# Altium integrated library Xilinx Aerospace and Defense.IntLib: 197 symbols (part 27 of 53)
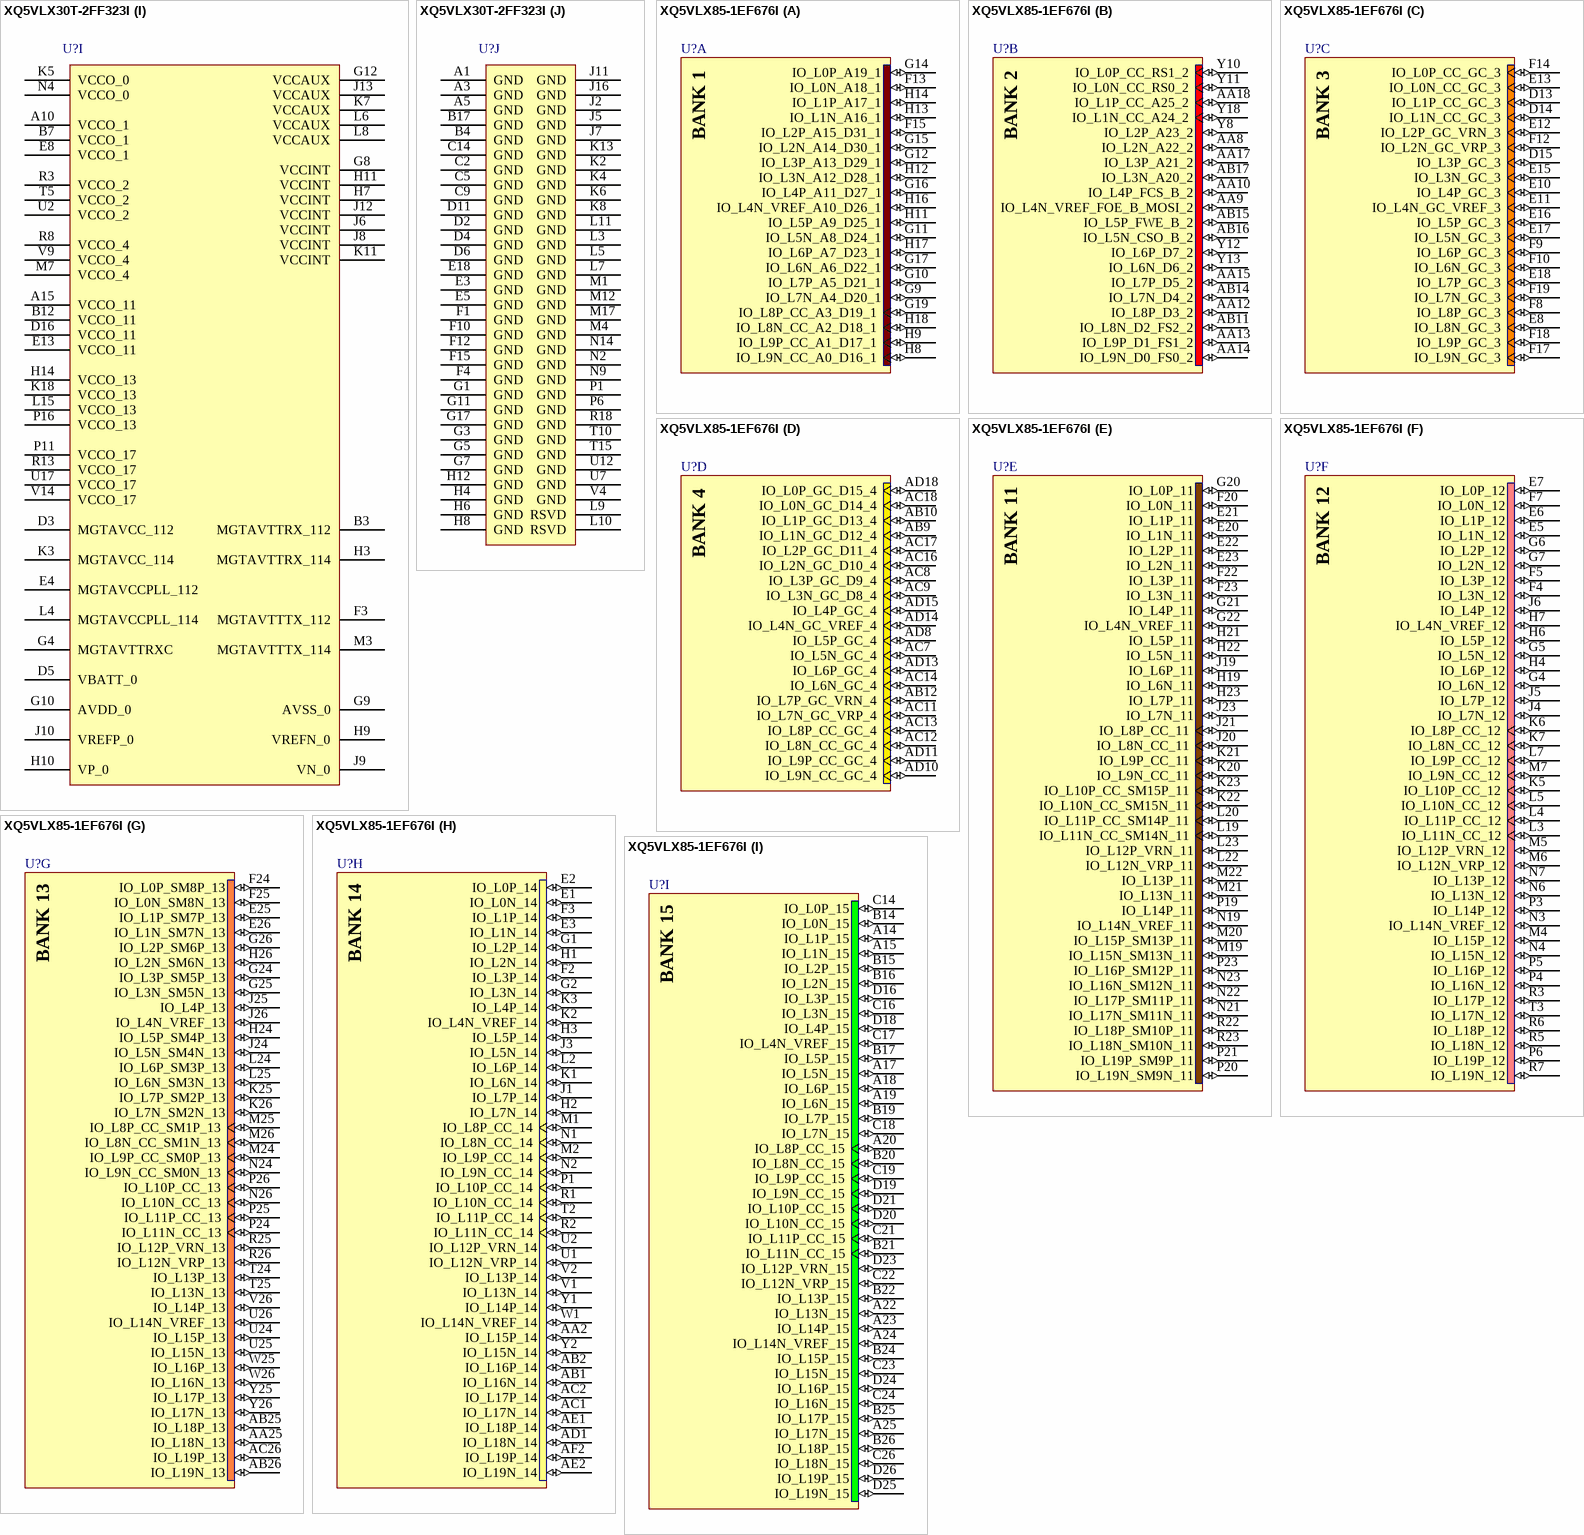
[diagram p339: symbols XQ5VLX30T-2FF323I to XQ5VLX85-1EF676I]

## XQ5VLX30T-2FF323I
designator U?
Virtex-5Q LXT Platform FPGA, 172 User I/Os, 323-Ball FFBGA, Speed Grade 2, Industrial Grade; DatasheetVersion: ver1.1, Dec-2009; PackageVersion: ver1.1, Mar-2008; PackageReference: FF323; PackageDescription: 324-Ball Flip Chip Ball Grid Array (FF323); Code_JEDEC: MS-034-AAG-1; Code_IPC: BGA100P18X18-324; ComponentLink1Description: Manufacturer URL; ComponentLink1URL: http://www.xilinx.com/; ComponentLink2Description: Virtex-5Q Datasheet; ComponentLink2URL: http://www.xilinx.com/support/documentation/data_sheets/ds174.pdf; ComponentLink3Description: Pinout; ComponentLink3URL: http://direct.xilinx.com/bvdocs/userguides/ug195.pdf; ComponentLink4Description: FF323 Package Drawing; ComponentLink4URL: http://www.xilinx.com/support/documentation/package_specs/ff323.pdf; ComponentLink5Description: Virtex-5Q Documents; ComponentLink5URL: http://www.xilinx.com/support/documentation/virtex-5q.htm
footprint FF323 (BGA, 324-Leads, Body 19x19mm, Pitch 1mm)
part A pins: A6 IO_L0N_A18_1 (io), A7 IO_L0P_A19_1 (io), A8 IO_L6P_A7_D23_1 (io), A9 IO_L6N_A6_D22_1 (io), B6 IO_L5P_A9_D25_1 (io), B8 IO_L4N_VREF_A10_D26_1 (io), B9 IO_L4P_A11_D27_1 (io), B10 IO_L8P_CC_A3_D19_1 (io), C6 IO_L5N_A8_D24_1 (io), C7 IO_L3N_A12_D28_1 (io), C8 IO_L3P_A13_D29_1 (io), C10 IO_L8N_CC_A2_D18_1 (io), D7 IO_L7P_A5_D21_1 (io), D8 IO_L1N_A16_1 (io), D9 IO_L2N_A14_D30_1 (io), D10 IO_L2P_A15_D31_1 (io), E7 IO_L7N_A4_D20_1 (io), E9 IO_L1P_A17_1 (io), F7 IO_L9N_CC_A0_D16_1 (io), F8 IO_L9P_CC_A1_D17_1 (io)
part B pins: P2 IO_L2P_A23_2 (io), P3 IO_L2N_A22_2 (io), P4 IO_L6P_D7_2 (io), P5 IO_L8P_D3_2 (io), R1 IO_L0P_CC_RS1_2 (io), R2 IO_L4P_FCS_B_2 (io), R4 IO_L6N_D6_2 (io), R5 IO_L8N_D2_FS2_2 (io), T1 IO_L0N_CC_RS0_2 (io), T2 IO_L4N_VREF_FOE_B_MOSI_2 (io), T3 IO_L9N_D0_FS0_2 (io), T4 IO_L9P_D1_FS1_2 (io), U1 IO_L1N_CC_A24_2 (io), U3 IO_L5N_CSO_B_2 (io), U4 IO_L5P_FWE_B_2 (io), U5 IO_L7P_D5_2 (io), V1 IO_L1P_CC_A25_2 (io), V2 IO_L3P_A21_2 (io), V3 IO_L3N_A20_2 (io), V5 IO_L7N_D4_2 (io)
part C pins: M8 IO_L7N_GC_VRP_4 (io), N6 IO_L1N_GC_D12_4 (io), N7 IO_L1P_GC_D13_4 (io), N8 IO_L7P_GC_VRN_4 (io), P7 IO_L9N_CC_GC_4 (io), P8 IO_L9P_CC_GC_4 (io), P9 IO_L0N_GC_D14_4 (io), R6 IO_L3N_GC_D8_4 (io), R7 IO_L8N_CC_GC_4 (io), R9 IO_L0P_GC_D15_4 (io), T6 IO_L3P_GC_D9_4 (io), T7 IO_L8P_CC_GC_4 (io), T8 IO_L4P_GC_4 (io), T9 IO_L2P_GC_D11_4 (io), U6 IO_L5N_GC_4 (io), U8 IO_L4N_GC_VREF_4 (io), U9 IO_L2N_GC_D10_4 (io), V6 IO_L5P_GC_4 (io), V7 IO_L6N_GC_4 (io), V8 IO_L6P_GC_4 (io)
part D pins: A11 IO_L3P_11 (io), A12 IO_L3N_11 (io), A13 IO_L5N_11 (io), A14 IO_L7N_11 (io), A16 IO_L10N_CC_SM15N_11 (io), A17 IO_L12N_VRP_11 (io), A18 IO_L12P_VRN_11 (io), B11 IO_L19P_SM9P_11 (io), B13 IO_L5P_11 (io), B14 IO_L7P_11 (io), B15 IO_L9N_CC_11 (io), B16 IO_L10P_CC_SM15P_11 (io), B18 IO_L16N_SM12N_11 (io), C11 IO_L19N_SM9N_11 (io), C12 IO_L4P_11 (io), C13 IO_L4N_VREF_11 (io), C15 IO_L9P_CC_11 (io), C16 IO_L14N_VREF_11 (io), C17 IO_L14P_11 (io), C18 IO_L16P_SM12P_11 (io), D12 IO_L15P_SM13P_11 (io), D13 IO_L0P_11 (io), D14 IO_L0N_11 (io), D15 IO_L1N_11 (io), D17 IO_L18N_SM10N_11 (io), D18 IO_L18P_SM10P_11 (io), E12 IO_L15N_SM13N_11 (io), E14 IO_L2P_11 (io), E15 IO_L1P_11 (io), E16 IO_L13N_11 (io), E17 IO_L13P_11 (io), F13 IO_L8N_CC_11 (io), F14 IO_L2N_11 (io), F16 IO_L11P_CC_SM14P_11 (io), F17 IO_L17N_SM11N_11 (io), F18 IO_L17P_SM11P_11 (io), G13 IO_L8P_CC_11 (io), G14 IO_L6P_11 (io), G15 IO_L6N_11 (io), G16 IO_L11N_CC_SM14N_11 (io)
part E pins: G18 IO_L1N_SM7N_13 (io), H13 IO_L0P_SM8P_13 (io), H15 IO_L6P_SM3P_13 (io), H16 IO_L6N_SM3N_13 (io), H17 IO_L1P_SM7P_13 (io), H18 IO_L3P_SM5P_13 (io), J14 IO_L0N_SM8N_13 (io), J15 IO_L2P_SM6P_13 (io), J17 IO_L5P_SM4P_13 (io), J18 IO_L3N_SM5N_13 (io), K12 IO_L4P_13 (io), K14 IO_L13N_13 (io), K15 IO_L2N_SM6N_13 (io), K16 IO_L9P_CC_SM0P_13 (io), K17 IO_L5N_SM4N_13 (io), L12 IO_L4N_VREF_13 (io), L13 IO_L11N_CC_13 (io), L14 IO_L13P_13 (io), L16 IO_L9N_CC_SM0N_13 (io), L17 IO_L7N_SM2N_13 (io), L18 IO_L7P_SM2P_13 (io), M11 IO_L8N_CC_SM1N_13 (io), M13 IO_L15N_13 (io), M14 IO_L11P_CC_13 (io), M15 IO_L19N_13 (io), M16 IO_L18N_13 (io), M18 IO_L10N_CC_13 (io), N12 IO_L8P_CC_SM1P_13 (io), N13 IO_L15P_13 (io), N15 IO_L19P_13 (io), N16 IO_L18P_13 (io), N17 IO_L12N_VRP_13 (io), N18 IO_L10P_CC_13 (io), P14 IO_L17P_13 (io), P15 IO_L17N_13 (io), P17 IO_L14N_VREF_13 (io), P18 IO_L12P_VRN_13 (io), R15 IO_L16P_13 (io), R16 IO_L16N_13 (io), R17 IO_L14P_13 (io)
part F pins: M10 IO_L4P_17 (io), N10 IO_L8N_CC_17 (io), N11 IO_L4N_VREF_17 (io), P10 IO_L8P_CC_17 (io), P12 IO_L17P_17 (io), P13 IO_L17N_17 (io), R10 IO_L11P_CC_17 (io), R11 IO_L11N_CC_17 (io), R12 IO_L6N_17 (io), R14 IO_L14P_17 (io), T11 IO_L13P_17 (io), T12 IO_L6P_17 (io), T13 IO_L16N_17 (io), T14 IO_L14N_VREF_17 (io), T16 IO_L5N_17 (io), T17 IO_L5P_17 (io), T18 IO_L7P_17 (io), U10 IO_L15N_17 (io), U11 IO_L13N_17 (io), U13 IO_L18P_17 (io), U14 IO_L16P_17 (io), U15 IO_L9N_CC_17 (io), U16 IO_L9P_CC_17 (io), U18 IO_L7N_17 (io), V10 IO_L15P_17 (io), V11 IO_L19N_17 (io), V12 IO_L19P_17 (io), V13 IO_L18N_17 (io), V15 IO_L12N_VRP_17 (io), V16 IO_L12P_VRN_17 (io), V17 IO_L10N_CC_17 (io), V18 IO_L10P_CC_17 (io)
part G pins: A4 CS_B_0 (in), B5 INIT_B_0 (io), E6 RDWR_B_0 (in), E10 CCLK_0 (io), E11 PROGRAM_B_0 (in), F6 D_IN_0 (in), F9 DONE_0 (io), F11 HSWAPEN_0 (in), G6 M0_0 (in), H5 M1_0 (in), K9 DXN_0, K10 DXP_0, M5 TDI_0 (in), M6 TCK_0 (in), M9 M2_0 (in), N1 TMS_0 (in), N3 D_OUT_BUSY_0 (out), N5 TDO_0 (out)
part H pins: A2 MGTTXP0_112 (out), B1 MGTRXP0_112 (in), B2 MGTTXN0_112 (out), C1 MGTRXN0_112 (in), C3 MGTREFCLKP_112 (in), C4 MGTREFCLKN_112 (in), D1 MGTRXN1_112 (in), E1 MGTRXP1_112 (in), E2 MGTTXN1_112 (out), F2 MGTTXP1_112 (out), F5 MGTRREF_112 (in), G2 MGTTXP0_114 (out), H1 MGTRXP0_114 (in), H2 MGTTXN0_114 (out), J1 MGTRXN0_114 (in), J3 MGTREFCLKP_114 (in), J4 MGTREFCLKN_114 (in), K1 MGTRXN1_114 (in), L1 MGTRXP1_114 (in), L2 MGTTXN1_114 (out), M2 MGTTXP1_114 (out)
part I pins: A10 VCCO_1 (power), A15 VCCO_11 (power), B3 MGTAVTTRX_112 (power), B7 VCCO_1 (power), B12 VCCO_11 (power), D3 MGTAVCC_112 (power), D5 VBATT_0 (power), D16 VCCO_11 (power), E4 MGTAVCCPLL_112 (power), E8 VCCO_1 (power), E13 VCCO_11 (power), F3 MGTAVTTTX_112 (power), G4 MGTAVTTRXC (power), G8 VCCINT (power), G9 AVSS_0 (power), G10 AVDD_0 (power), G12 VCCAUX (power), H3 MGTAVTTRX_114 (power), H7 VCCINT (power), H9 VREFN_0 (power), H10 VP_0 (power), H11 VCCINT (power), H14 VCCO_13 (power), J6 VCCINT (power), J8 VCCINT (power), J9 VN_0 (power), J10 VREFP_0 (power), J12 VCCINT (power), J13 VCCAUX (power), K3 MGTAVCC_114 (power), K5 VCCO_0 (power), K7 VCCAUX (power), K11 VCCINT (power), K18 VCCO_13 (power), L4 MGTAVCCPLL_114 (power), L6 VCCAUX (power), L8 VCCAUX (power), L15 VCCO_13 (power), M3 MGTAVTTTX_114 (power), M7 VCCO_4 (power), N4 VCCO_0 (power), P11 VCCO_17 (power), P16 VCCO_13 (power), R3 VCCO_2 (power), R8 VCCO_4 (power), R13 VCCO_17 (power), T5 VCCO_2 (power), U2 VCCO_2 (power), U17 VCCO_17 (power), V9 VCCO_4 (power), V14 VCCO_17 (power)
part J pins: A1 GND (power), A3 GND (power), A5 GND (power), B4 GND (power), B17 GND (power), C2 GND (power), C5 GND (power), C9 GND (power), C14 GND (power), D2 GND (power), D4 GND (power), D6 GND (power), D11 GND (power), E3 GND (power), E5 GND (power), E18 GND (power), F1 GND (power), F4 GND (power), F10 GND (power), F12 GND (power), F15 GND (power), G1 GND (power), G3 GND (power), G5 GND (power), G7 GND (power), G11 GND (power), G17 GND (power), H4 GND (power), H6 GND (power), H8 GND (power), H12 GND (power), J2 GND (power), J5 GND (power), J7 GND (power), J11 GND (power), J16 GND (power), K2 GND (power), K4 GND (power), K6 GND (power), K8 GND (power), K13 GND (power), L3 GND (power), L5 GND (power), L7 GND (power), L9 RSVD, L10 RSVD, L11 GND (power), M1 GND (power), M4 GND (power), M12 GND (power), M17 GND (power), N2 GND (power), N9 GND (power), N14 GND (power), P1 GND (power), P6 GND (power), R18 GND (power), T10 GND (power), T15 GND (power), U7 GND (power), U12 GND (power), V4 GND (power)
part A text: BANK 1
part B text: BANK 2
part C text: BANK 4
part D text: BANK 11
part E text: BANK 13
part F text: BANK 17

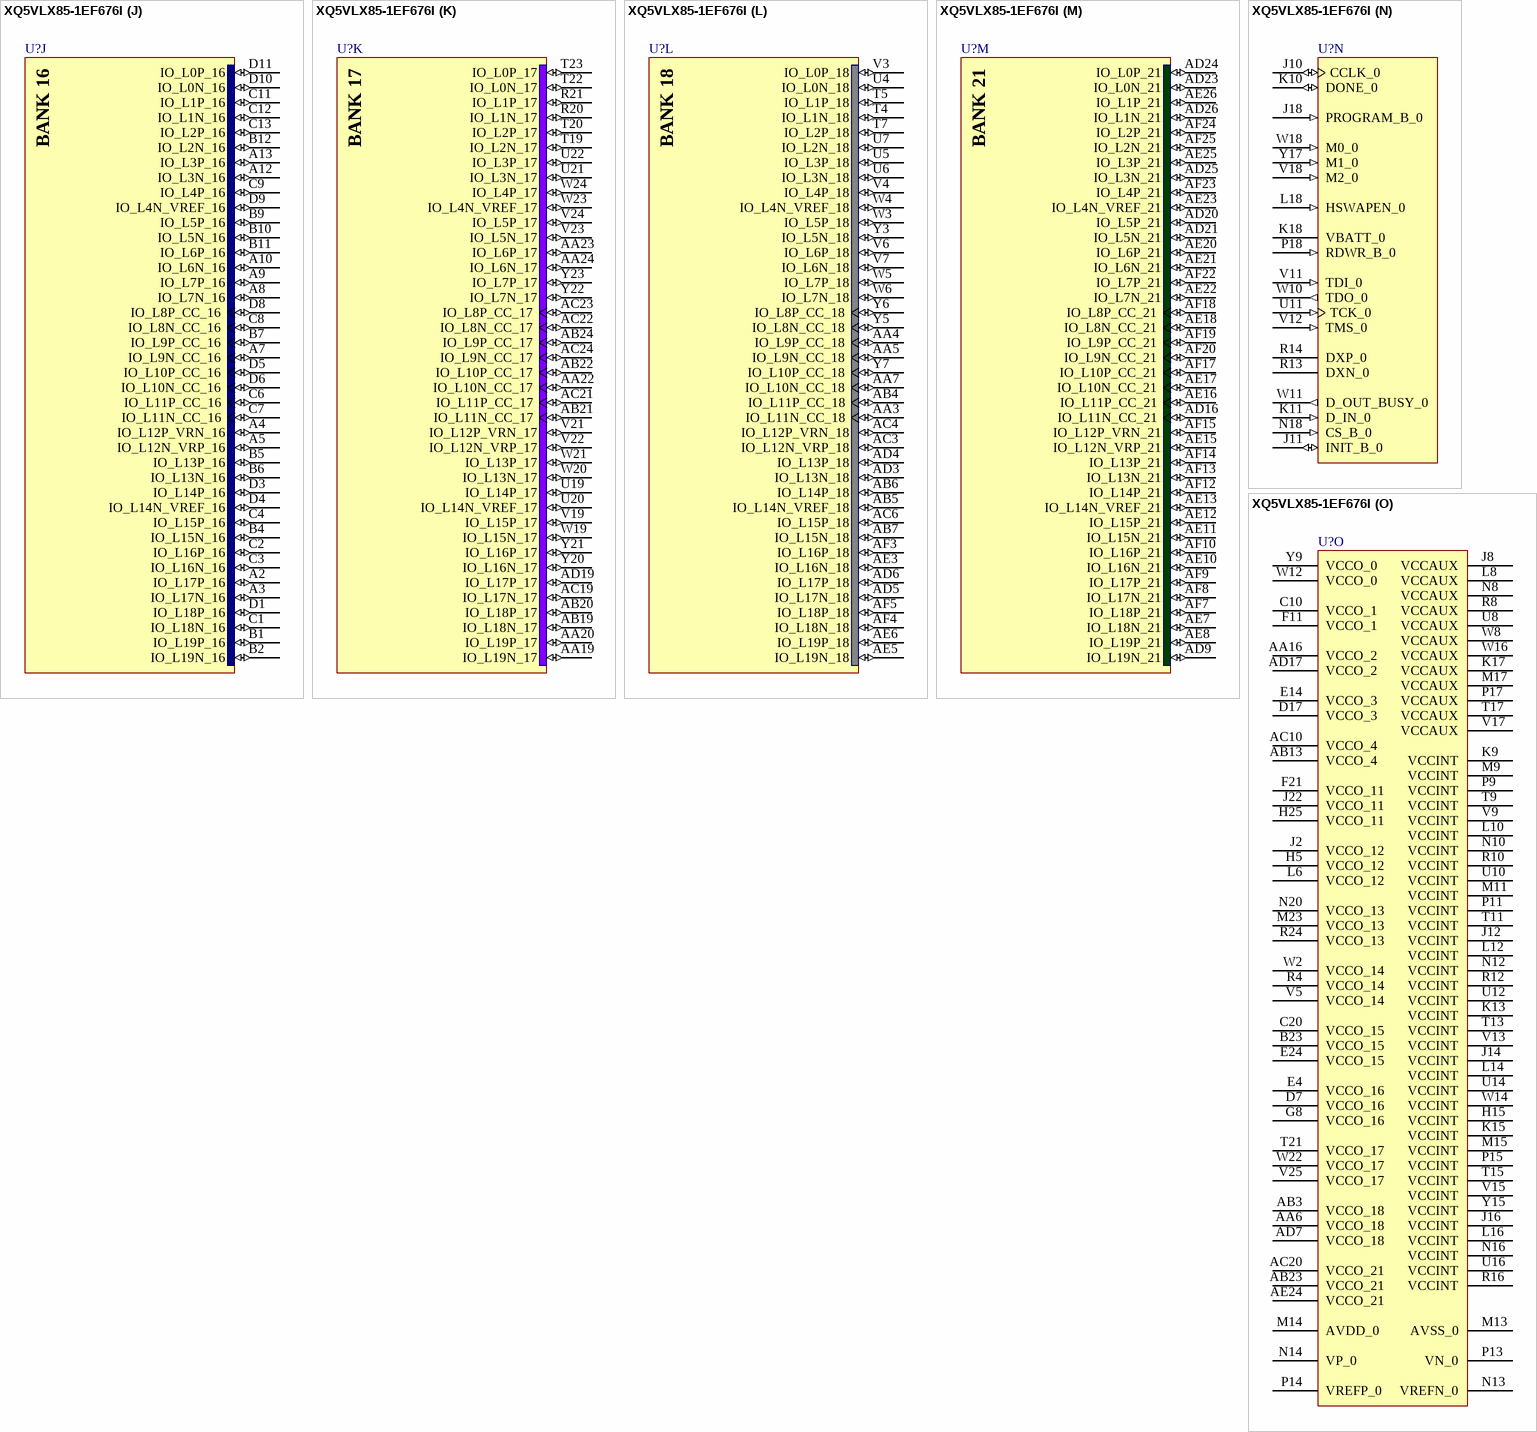
[diagram p100: symbol XQ5VLX85-1EF676I]

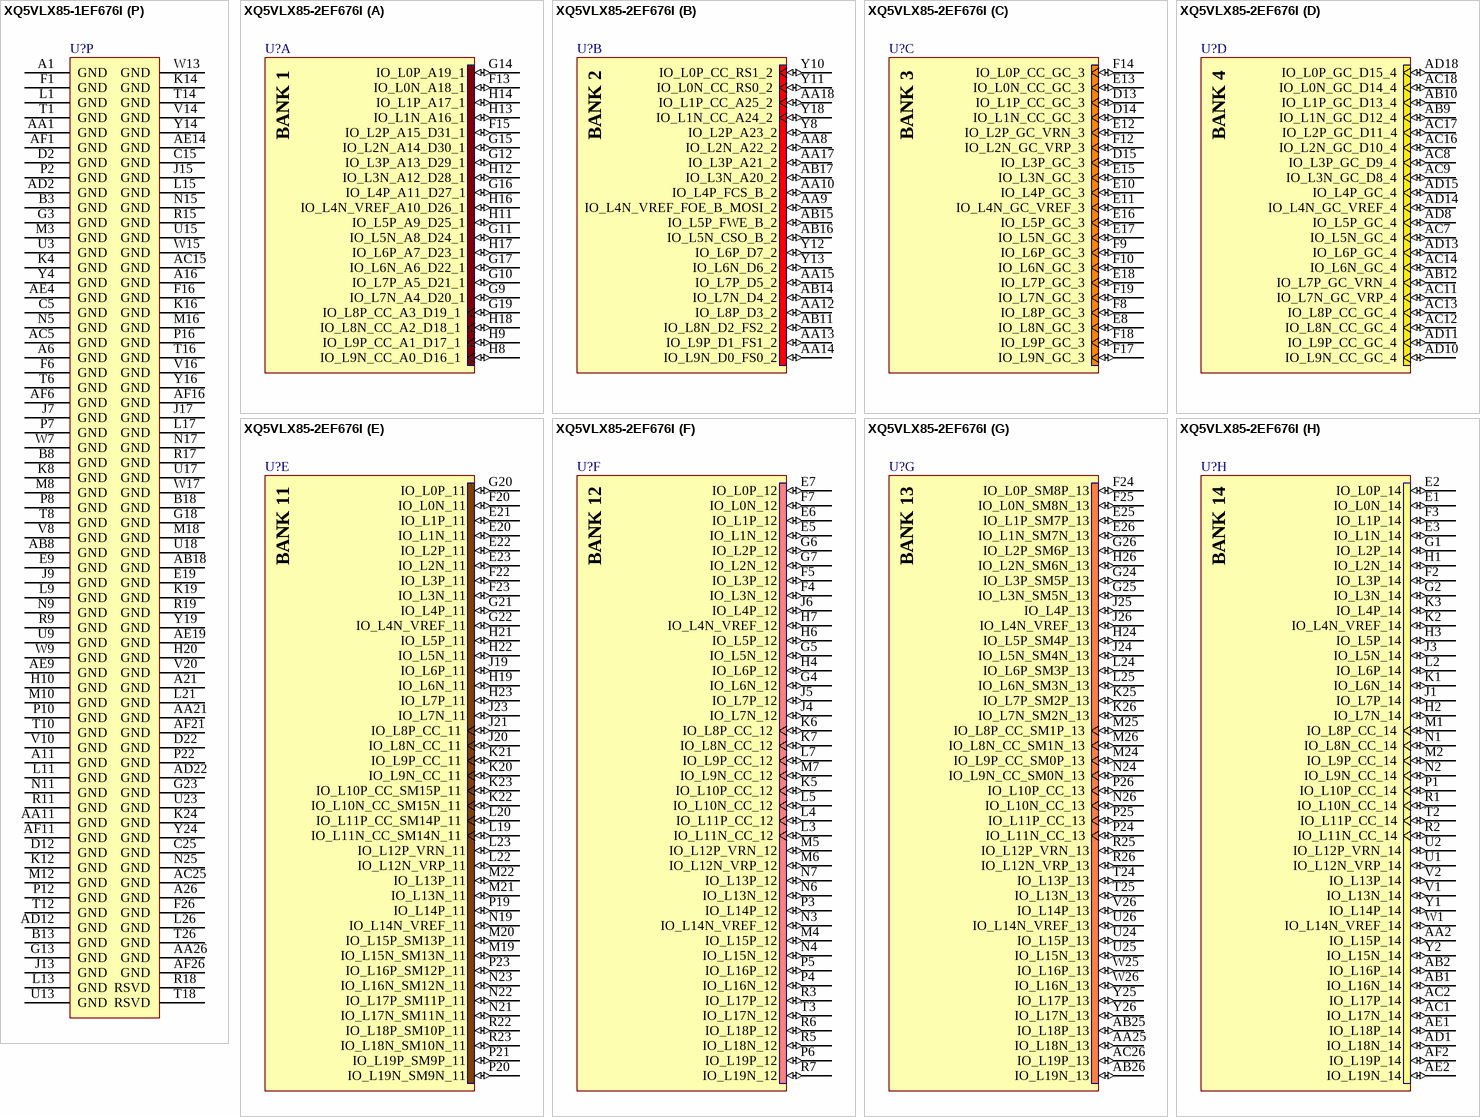
[diagram p101: symbols XQ5VLX85-1EF676I to XQ5VLX85-2EF676I]

## XQ5VLX85-1EF676I
designator U?
Virtex-5Q LX Platform FPGA, 440 User I/Os, 676-Ball EFBGA, Speed Grade 1, Industrial Grade; Note: Do not connect a single-ended clock to the N-side of clock capable pins (CC & GC pins).; DatasheetVersion: ver1.1, Dec-2009; PackageVersion: ver1.0, May-2009; PackageReference: EF676; PackageDescription: 676-Ball Flip Chip Ball Grid Array (EF676); Code_JEDEC: MS-034-AAL-1; Code_IPC: BGA100P26X26-676; ComponentLink1Description: Manufacturer URL; ComponentLink1URL: http://www.xilinx.com/; ComponentLink2Description: Virtex-5Q Datasheet; ComponentLink2URL: http://www.xilinx.com/support/documentation/data_sheets/ds174.pdf; ComponentLink3Description: Pinout; ComponentLink3URL: http://direct.xilinx.com/bvdocs/userguides/ug195.pdf; ComponentLink4Description: EF676 Package Drawing; ComponentLink4URL: http://www.xilinx.com/support/documentation/package_specs/ef676.pdf; ComponentLink5Description: Virtex-5Q Documents; ComponentLink5URL: http://www.xilinx.com/support/documentation/virtex-5q.htm
footprint EF676 (BGA, 676-Leads, Body 27x27mm, Pitch 1mm)
part A pins: F13 IO_L0N_A18_1 (io), F15 IO_L2P_A15_D31_1 (io), G9 IO_L7N_A4_D20_1 (io), G10 IO_L7P_A5_D21_1 (io), G11 IO_L5N_A8_D24_1 (io), G12 IO_L3P_A13_D29_1 (io), G14 IO_L0P_A19_1 (io), G15 IO_L2N_A14_D30_1 (io), G16 IO_L4P_A11_D27_1 (io), G17 IO_L6N_A6_D22_1 (io), G19 IO_L8P_CC_A3_D19_1 (io), H8 IO_L9N_CC_A0_D16_1 (io), H9 IO_L9P_CC_A1_D17_1 (io), H11 IO_L5P_A9_D25_1 (io), H12 IO_L3N_A12_D28_1 (io), H13 IO_L1N_A16_1 (io), H14 IO_L1P_A17_1 (io), H16 IO_L4N_VREF_A10_D26_1 (io), H17 IO_L6P_A7_D23_1 (io), H18 IO_L8N_CC_A2_D18_1 (io)
part B pins: AA8 IO_L2N_A22_2 (io), AA9 IO_L4N_VREF_FOE_B_MOSI_2 (io), AA10 IO_L4P_FCS_B_2 (io), AA12 IO_L8P_D3_2 (io), AA13 IO_L9P_D1_FS1_2 (io), AA14 IO_L9N_D0_FS0_2 (io), AA15 IO_L7P_D5_2 (io), AA17 IO_L3P_A21_2 (io), AA18 IO_L1P_CC_A25_2 (io), AB11 IO_L8N_D2_FS2_2 (io), AB14 IO_L7N_D4_2 (io), AB15 IO_L5P_FWE_B_2 (io), AB16 IO_L5N_CSO_B_2 (io), AB17 IO_L3N_A20_2 (io), Y8 IO_L2P_A23_2 (io), Y10 IO_L0P_CC_RS1_2 (io), Y11 IO_L0N_CC_RS0_2 (io), Y12 IO_L6P_D7_2 (io), Y13 IO_L6N_D6_2 (io), Y18 IO_L1N_CC_A24_2 (io)
part C pins: D13 IO_L1P_CC_GC_3 (io), D14 IO_L1N_CC_GC_3 (io), D15 IO_L3P_GC_3 (io), E8 IO_L8N_GC_3 (io), E10 IO_L4P_GC_3 (io), E11 IO_L4N_GC_VREF_3 (io), E12 IO_L2P_GC_VRN_3 (io), E13 IO_L0N_CC_GC_3 (io), E15 IO_L3N_GC_3 (io), E16 IO_L5P_GC_3 (io), E17 IO_L5N_GC_3 (io), E18 IO_L7P_GC_3 (io), F8 IO_L8P_GC_3 (io), F9 IO_L6P_GC_3 (io), F10 IO_L6N_GC_3 (io), F12 IO_L2N_GC_VRP_3 (io), F14 IO_L0P_CC_GC_3 (io), F17 IO_L9N_GC_3 (io), F18 IO_L9P_GC_3 (io), F19 IO_L7N_GC_3 (io)
part D pins: AB9 IO_L1N_GC_D12_4 (io), AB10 IO_L1P_GC_D13_4 (io), AB12 IO_L7P_GC_VRN_4 (io), AC7 IO_L5N_GC_4 (io), AC8 IO_L3P_GC_D9_4 (io), AC9 IO_L3N_GC_D8_4 (io), AC11 IO_L7N_GC_VRP_4 (io), AC12 IO_L8N_CC_GC_4 (io), AC13 IO_L8P_CC_GC_4 (io), AC14 IO_L6N_GC_4 (io), AC16 IO_L2N_GC_D10_4 (io), AC17 IO_L2P_GC_D11_4 (io), AC18 IO_L0N_GC_D14_4 (io), AD8 IO_L5P_GC_4 (io), AD10 IO_L9N_CC_GC_4 (io), AD11 IO_L9P_CC_GC_4 (io), AD13 IO_L6P_GC_4 (io), AD14 IO_L4N_GC_VREF_4 (io), AD15 IO_L4P_GC_4 (io), AD18 IO_L0P_GC_D15_4 (io)
part E pins: E20 IO_L1N_11 (io), E21 IO_L1P_11 (io), E22 IO_L2P_11 (io), E23 IO_L2N_11 (io), F20 IO_L0N_11 (io), F22 IO_L3P_11 (io), F23 IO_L3N_11 (io), G20 IO_L0P_11 (io), G21 IO_L4P_11 (io), G22 IO_L4N_VREF_11 (io), H19 IO_L6N_11 (io), H21 IO_L5P_11 (io), H22 IO_L5N_11 (io), H23 IO_L7P_11 (io), J19 IO_L6P_11 (io), J20 IO_L8N_CC_11 (io), J21 IO_L8P_CC_11 (io), J23 IO_L7N_11 (io), K20 IO_L9N_CC_11 (io), K21 IO_L9P_CC_11 (io), K22 IO_L10N_CC_SM15N_11 (io), K23 IO_L10P_CC_SM15P_11 (io), L19 IO_L11N_CC_SM14N_11 (io), L20 IO_L11P_CC_SM14P_11 (io), L22 IO_L12N_VRP_11 (io), L23 IO_L12P_VRN_11 (io), M19 IO_L15N_SM13N_11 (io), M20 IO_L15P_SM13P_11 (io), M21 IO_L13N_11 (io), M22 IO_L13P_11 (io), N19 IO_L14N_VREF_11 (io), N21 IO_L17N_SM11N_11 (io), N22 IO_L17P_SM11P_11 (io), N23 IO_L16N_SM12N_11 (io), P19 IO_L14P_11 (io), P20 IO_L19N_SM9N_11 (io), P21 IO_L19P_SM9P_11 (io), P23 IO_L16P_SM12P_11 (io), R22 IO_L18P_SM10P_11 (io), R23 IO_L18N_SM10N_11 (io)
part F pins: E5 IO_L1N_12 (io), E6 IO_L1P_12 (io), E7 IO_L0P_12 (io), F4 IO_L3N_12 (io), F5 IO_L3P_12 (io), F7 IO_L0N_12 (io), G4 IO_L6N_12 (io), G5 IO_L5N_12 (io), G6 IO_L2P_12 (io), G7 IO_L2N_12 (io), H4 IO_L6P_12 (io), H6 IO_L5P_12 (io), H7 IO_L4N_VREF_12 (io), J4 IO_L7N_12 (io), J5 IO_L7P_12 (io), J6 IO_L4P_12 (io), K5 IO_L10P_CC_12 (io), K6 IO_L8P_CC_12 (io), K7 IO_L8N_CC_12 (io), L3 IO_L11N_CC_12 (io), L4 IO_L11P_CC_12 (io), L5 IO_L10N_CC_12 (io), L7 IO_L9P_CC_12 (io), M4 IO_L15P_12 (io), M5 IO_L12P_VRN_12 (io), M6 IO_L12N_VRP_12 (io), M7 IO_L9N_CC_12 (io), N3 IO_L14N_VREF_12 (io), N4 IO_L15N_12 (io), N6 IO_L13N_12 (io), N7 IO_L13P_12 (io), P3 IO_L14P_12 (io), P4 IO_L16N_12 (io), P5 IO_L16P_12 (io), P6 IO_L19P_12 (io), R3 IO_L17P_12 (io), R5 IO_L18N_12 (io), R6 IO_L18P_12 (io), R7 IO_L19N_12 (io), T3 IO_L17N_12 (io)
part G pins: AA25 IO_L18N_13 (io), AB25 IO_L18P_13 (io), AB26 IO_L19N_13 (io), AC26 IO_L19P_13 (io), E25 IO_L1P_SM7P_13 (io), E26 IO_L1N_SM7N_13 (io), F24 IO_L0P_SM8P_13 (io), F25 IO_L0N_SM8N_13 (io), G24 IO_L3P_SM5P_13 (io), G25 IO_L3N_SM5N_13 (io), G26 IO_L2P_SM6P_13 (io), H24 IO_L5P_SM4P_13 (io), H26 IO_L2N_SM6N_13 (io), J24 IO_L5N_SM4N_13 (io), J25 IO_L4P_13 (io), J26 IO_L4N_VREF_13 (io), K25 IO_L7P_SM2P_13 (io), K26 IO_L7N_SM2N_13 (io), L24 IO_L6P_SM3P_13 (io), L25 IO_L6N_SM3N_13 (io), M24 IO_L9P_CC_SM0P_13 (io), M25 IO_L8P_CC_SM1P_13 (io), M26 IO_L8N_CC_SM1N_13 (io), N24 IO_L9N_CC_SM0N_13 (io), N26 IO_L10N_CC_13 (io), P24 IO_L11N_CC_13 (io), P25 IO_L11P_CC_13 (io), P26 IO_L10P_CC_13 (io), R25 IO_L12P_VRN_13 (io), R26 IO_L12N_VRP_13 (io), T24 IO_L13P_13 (io), T25 IO_L13N_13 (io), U24 IO_L15P_13 (io), U25 IO_L15N_13 (io), U26 IO_L14N_VREF_13 (io), V26 IO_L14P_13 (io), W25 IO_L16P_13 (io), W26 IO_L16N_13 (io), Y25 IO_L17P_13 (io), Y26 IO_L17N_13 (io)
part H pins: AA2 IO_L15P_14 (io), AB1 IO_L16N_14 (io), AB2 IO_L16P_14 (io), AC1 IO_L17N_14 (io), AC2 IO_L17P_14 (io), AD1 IO_L18N_14 (io), AE1 IO_L18P_14 (io), AE2 IO_L19N_14 (io), AF2 IO_L19P_14 (io), E1 IO_L0N_14 (io), E2 IO_L0P_14 (io), E3 IO_L1N_14 (io), F2 IO_L3P_14 (io), F3 IO_L1P_14 (io), G1 IO_L2P_14 (io), G2 IO_L3N_14 (io), H1 IO_L2N_14 (io), H2 IO_L7N_14 (io), H3 IO_L5P_14 (io), J1 IO_L7P_14 (io), J3 IO_L5N_14 (io), K1 IO_L6N_14 (io), K2 IO_L4N_VREF_14 (io), K3 IO_L4P_14 (io), L2 IO_L6P_14 (io), M1 IO_L8P_CC_14 (io), M2 IO_L9P_CC_14 (io), N1 IO_L8N_CC_14 (io), N2 IO_L9N_CC_14 (io), P1 IO_L10P_CC_14 (io), R1 IO_L10N_CC_14 (io), R2 IO_L11N_CC_14 (io), T2 IO_L11P_CC_14 (io), U1 IO_L12N_VRP_14 (io), U2 IO_L12P_VRN_14 (io), V1 IO_L13N_14 (io), V2 IO_L13P_14 (io), W1 IO_L14N_VREF_14 (io), Y1 IO_L14P_14 (io), Y2 IO_L15N_14 (io)
part I pins: A14 IO_L1P_15 (io), A15 IO_L1N_15 (io), A17 IO_L5N_15 (io), A18 IO_L6P_15 (io), A19 IO_L6N_15 (io), A20 IO_L8P_CC_15 (io), A22 IO_L13N_15 (io), A23 IO_L14P_15 (io), A24 IO_L14N_VREF_15 (io), A25 IO_L17N_15 (io), B14 IO_L0N_15 (io), B15 IO_L2P_15 (io), B16 IO_L2N_15 (io), B17 IO_L5P_15 (io), B19 IO_L7P_15 (io), B20 IO_L8N_CC_15 (io), B21 IO_L11N_CC_15 (io), B22 IO_L13P_15 (io), B24 IO_L15P_15 (io), B25 IO_L17P_15 (io), B26 IO_L18P_15 (io), C14 IO_L0P_15 (io), C16 IO_L3N_15 (io), C17 IO_L4N_VREF_15 (io), C18 IO_L7N_15 (io), C19 IO_L9P_CC_15 (io), C21 IO_L11P_CC_15 (io), C22 IO_L12N_VRP_15 (io), C23 IO_L15N_15 (io), C24 IO_L16N_15 (io), C26 IO_L18N_15 (io), D16 IO_L3P_15 (io), D18 IO_L4P_15 (io), D19 IO_L9N_CC_15 (io), D20 IO_L10N_CC_15 (io), D21 IO_L10P_CC_15 (io), D23 IO_L12P_VRN_15 (io), D24 IO_L16P_15 (io), D25 IO_L19N_15 (io), D26 IO_L19P_15 (io)
part J pins: A2 IO_L17P_16 (io), A3 IO_L17N_16 (io), A4 IO_L12P_VRN_16 (io), A5 IO_L12N_VRP_16 (io), A7 IO_L9N_CC_16 (io), A8 IO_L7N_16 (io), A9 IO_L7P_16 (io), A10 IO_L6N_16 (io), A12 IO_L3N_16 (io), A13 IO_L3P_16 (io), B1 IO_L19P_16 (io), B2 IO_L19N_16 (io), B4 IO_L15N_16 (io), B5 IO_L13P_16 (io), B6 IO_L13N_16 (io), B7 IO_L9P_CC_16 (io), B9 IO_L5P_16 (io), B10 IO_L5N_16 (io), B11 IO_L6P_16 (io), B12 IO_L2N_16 (io), C1 IO_L18N_16 (io), C2 IO_L16P_16 (io), C3 IO_L16N_16 (io), C4 IO_L15P_16 (io), C6 IO_L11P_CC_16 (io), C7 IO_L11N_CC_16 (io), C8 IO_L8N_CC_16 (io), C9 IO_L4P_16 (io), C11 IO_L1P_16 (io), C12 IO_L1N_16 (io), C13 IO_L2P_16 (io), D1 IO_L18P_16 (io), D3 IO_L14P_16 (io), D4 IO_L14N_VREF_16 (io), D5 IO_L10P_CC_16 (io), D6 IO_L10N_CC_16 (io), D8 IO_L8P_CC_16 (io), D9 IO_L4N_VREF_16 (io), D10 IO_L0N_16 (io), D11 IO_L0P_16 (io)
part K pins: AA19 IO_L19N_17 (io), AA20 IO_L19P_17 (io), AA22 IO_L10N_CC_17 (io), AA23 IO_L6P_17 (io), AA24 IO_L6N_17 (io), AB19 IO_L18N_17 (io), AB20 IO_L18P_17 (io), AB21 IO_L11N_CC_17 (io), AB22 IO_L10P_CC_17 (io), AB24 IO_L9P_CC_17 (io), AC19 IO_L17N_17 (io), AC21 IO_L11P_CC_17 (io), AC22 IO_L8N_CC_17 (io), AC23 IO_L8P_CC_17 (io), AC24 IO_L9N_CC_17 (io), AD19 IO_L17P_17 (io), R20 IO_L1N_17 (io), R21 IO_L1P_17 (io), T19 IO_L2N_17 (io), T20 IO_L2P_17 (io), T22 IO_L0N_17 (io), T23 IO_L0P_17 (io), U19 IO_L14P_17 (io), U20 IO_L14N_VREF_17 (io), U21 IO_L3N_17 (io), U22 IO_L3P_17 (io), V19 IO_L15P_17 (io), V21 IO_L12P_VRN_17 (io), V22 IO_L12N_VRP_17 (io), V23 IO_L5N_17 (io), V24 IO_L5P_17 (io), W19 IO_L15N_17 (io), W20 IO_L13N_17 (io), W21 IO_L13P_17 (io), W23 IO_L4N_VREF_17 (io), W24 IO_L4P_17 (io), Y20 IO_L16N_17 (io), Y21 IO_L16P_17 (io), Y22 IO_L7N_17 (io), Y23 IO_L7P_17 (io)
part L pins: AA3 IO_L11N_CC_18 (io), AA4 IO_L9P_CC_18 (io), AA5 IO_L9N_CC_18 (io), AA7 IO_L10N_CC_18 (io), AB4 IO_L11P_CC_18 (io), AB5 IO_L14N_VREF_18 (io), AB6 IO_L14P_18 (io), AB7 IO_L15N_18 (io), AC3 IO_L12N_VRP_18 (io), AC4 IO_L12P_VRN_18 (io), AC6 IO_L15P_18 (io), AD3 IO_L13N_18 (io), AD4 IO_L13P_18 (io), AD5 IO_L17N_18 (io), AD6 IO_L17P_18 (io), AE3 IO_L16N_18 (io), AE5 IO_L19N_18 (io), AE6 IO_L19P_18 (io), AF3 IO_L16P_18 (io), AF4 IO_L18N_18 (io), AF5 IO_L18P_18 (io), T4 IO_L1N_18 (io), T5 IO_L1P_18 (io), T7 IO_L2P_18 (io), U4 IO_L0N_18 (io), U5 IO_L3P_18 (io), U6 IO_L3N_18 (io), U7 IO_L2N_18 (io), V3 IO_L0P_18 (io), V4 IO_L4P_18 (io), V6 IO_L6P_18 (io), V7 IO_L6N_18 (io), W3 IO_L5P_18 (io), W4 IO_L4N_VREF_18 (io), W5 IO_L7P_18 (io), W6 IO_L7N_18 (io), Y3 IO_L5N_18 (io), Y5 IO_L8N_CC_18 (io), Y6 IO_L8P_CC_18 (io), Y7 IO_L10P_CC_18 (io)
part M pins: AD9 IO_L19N_21 (io), AD16 IO_L11N_CC_21 (io), AD20 IO_L5P_21 (io), AD21 IO_L5N_21 (io), AD23 IO_L0N_21 (io), AD24 IO_L0P_21 (io), AD25 IO_L3N_21 (io), AD26 IO_L1N_21 (io), AE7 IO_L18N_21 (io), AE8 IO_L19P_21 (io), AE10 IO_L16N_21 (io), AE11 IO_L15N_21 (io), AE12 IO_L15P_21 (io), AE13 IO_L14N_VREF_21 (io), AE15 IO_L12N_VRP_21 (io), AE16 IO_L11P_CC_21 (io), AE17 IO_L10N_CC_21 (io), AE18 IO_L8N_CC_21 (io), AE20 IO_L6P_21 (io), AE21 IO_L6N_21 (io), AE22 IO_L7N_21 (io), AE23 IO_L4N_VREF_21 (io), AE25 IO_L3P_21 (io), AE26 IO_L1P_21 (io), AF7 IO_L18P_21 (io), AF8 IO_L17N_21 (io), AF9 IO_L17P_21 (io), AF10 IO_L16P_21 (io), AF12 IO_L14P_21 (io), AF13 IO_L13N_21 (io), AF14 IO_L13P_21 (io), AF15 IO_L12P_VRN_21 (io), AF17 IO_L10P_CC_21 (io), AF18 IO_L8P_CC_21 (io), AF19 IO_L9P_CC_21 (io), AF20 IO_L9N_CC_21 (io), AF22 IO_L7P_21 (io), AF23 IO_L4P_21 (io), AF24 IO_L2P_21 (io), AF25 IO_L2N_21 (io)
part N pins: J10 CCLK_0 (io), J11 INIT_B_0 (io), J18 PROGRAM_B_0 (in), K10 DONE_0 (io), K11 D_IN_0 (in), K18 VBATT_0 (power), L18 HSWAPEN_0 (in), N18 CS_B_0 (in), P18 RDWR_B_0 (in), R13 DXN_0, R14 DXP_0, U11 TCK_0 (in), V11 TDI_0 (in), V12 TMS_0 (in), V18 M2_0 (in), W10 TDO_0 (out), W11 D_OUT_BUSY_0 (out), W18 M0_0 (in), Y17 M1_0 (in)
part O pins: AA6 VCCO_18 (power), AA16 VCCO_2 (power), AB3 VCCO_18 (power), AB13 VCCO_4 (power), AB23 VCCO_21 (power), AC10 VCCO_4 (power), AC20 VCCO_21 (power), AD7 VCCO_18 (power), AD17 VCCO_2 (power), AE24 VCCO_21 (power), B23 VCCO_15 (power), C10 VCCO_1 (power), C20 VCCO_15 (power), D7 VCCO_16 (power), D17 VCCO_3 (power), E4 VCCO_16 (power), E14 VCCO_3 (power), E24 VCCO_15 (power), F11 VCCO_1 (power), F21 VCCO_11 (power), G8 VCCO_16 (power), H5 VCCO_12 (power), H15 VCCINT (power), H25 VCCO_11 (power), J2 VCCO_12 (power), J8 VCCAUX (power), J12 VCCINT (power), J14 VCCINT (power), J16 VCCINT (power), J22 VCCO_11 (power), K9 VCCINT (power), K13 VCCINT (power), K15 VCCINT (power), K17 VCCAUX (power), L6 VCCO_12 (power), L8 VCCAUX (power), L10 VCCINT (power), L12 VCCINT (power), L14 VCCINT (power), L16 VCCINT (power), M9 VCCINT (power), M11 VCCINT (power), M13 AVSS_0 (power), M14 AVDD_0 (power), M15 VCCINT (power), M17 VCCAUX (power), M23 VCCO_13 (power), N8 VCCAUX (power), N10 VCCINT (power), N12 VCCINT (power), N13 VREFN_0 (power), N14 VP_0 (power), N16 VCCINT (power), N20 VCCO_13 (power), P9 VCCINT (power), P11 VCCINT (power), P13 VN_0 (power), P14 VREFP_0 (power), P15 VCCINT (power), P17 VCCAUX (power), R4 VCCO_14 (power), R8 VCCAUX (power), R10 VCCINT (power), R12 VCCINT (power), R16 VCCINT (power), R24 VCCO_13 (power), T9 VCCINT (power), T11 VCCINT (power), T13 VCCINT (power), T15 VCCINT (power), T17 VCCAUX (power), T21 VCCO_17 (power), U8 VCCAUX (power), U10 VCCINT (power), U12 VCCINT (power), U14 VCCINT (power), U16 VCCINT (power), V5 VCCO_14 (power), V9 VCCINT (power), V13 VCCINT (power), V15 VCCINT (power), V17 VCCAUX (power), V25 VCCO_17 (power), W2 VCCO_14 (power), W8 VCCAUX (power), W12 VCCO_0 (power), W14 VCCINT (power), W16 VCCAUX (power), W22 VCCO_17 (power), Y9 VCCO_0 (power), Y15 VCCINT (power)
part P pins: A1 GND (power), A6 GND (power), A11 GND (power), A16 GND (power), A21 GND (power), A26 GND (power), AA1 GND (power), AA11 GND (power), AA21 GND (power), AA26 GND (power), AB8 GND (power), AB18 GND (power), AC5 GND (power), AC15 GND (power), AC25 GND (power), AD2 GND (power), AD12 GND (power), AD22 GND (power), AE4 GND (power), AE9 GND (power), AE14 GND (power), AE19 GND (power), AF1 GND (power), AF6 GND (power), AF11 GND (power), AF16 GND (power), AF21 GND (power), AF26 GND (power), B3 GND (power), B8 GND (power), B13 GND (power), B18 GND (power), C5 GND (power), C15 GND (power), C25 GND (power), D2 GND (power), D12 GND (power), D22 GND (power), E9 GND (power), E19 GND (power), F1 GND (power), F6 GND (power), F16 GND (power), F26 GND (power), G3 GND (power), G13 GND (power), G18 GND (power), G23 GND (power), H10 GND (power), H20 GND (power), J7 GND (power), J9 GND (power), J13 GND (power), J15 GND (power), J17 GND (power), K4 GND (power), K8 GND (power), K12 GND (power), K14 GND (power), K16 GND (power), K19 GND (power), K24 GND (power), L1 GND (power), L9 GND (power), L11 GND (power), L13 GND (power), L15 GND (power), L17 GND (power), L21 GND (power), L26 GND (power), M3 GND (power), M8 GND (power), M10 GND (power), M12 GND (power), M16 GND (power), M18 GND (power), N5 GND (power), N9 GND (power), N11 GND (power), N15 GND (power), N17 GND (power), N25 GND (power), P2 GND (power), P7 GND (power), P8 GND (power), P10 GND (power), P12 GND (power), P16 GND (power), P22 GND (power), R9 GND (power), R11 GND (power), R15 GND (power), R17 GND (power), R18 RSVD, R19 GND (power), T1 GND (power), T6 GND (power), T8 GND (power), T10 GND (power), T12 GND (power), T14 GND (power), T16 GND (power), T18 RSVD, T26 GND (power), U3 GND (power), U9 GND (power), U13 GND (power), U15 GND (power), U17 GND (power), U18 GND (power), U23 GND (power), V8 GND (power), V10 GND (power), V14 GND (power), V16 GND (power), V20 GND (power), W7 GND (power), W9 GND (power), W13 GND (power), W15 GND (power), W17 GND (power), Y4 GND (power), Y14 GND (power), Y16 GND (power), Y19 GND (power), Y24 GND (power)
part A text: BANK 1
part B text: BANK 2
part C text: BANK 3
part D text: BANK 4
part E text: BANK 11
part F text: BANK 12
part G text: BANK 13
part H text: BANK 14
part I text: BANK 15
part J text: BANK 16
part K text: BANK 17
part L text: BANK 18
part M text: BANK 21

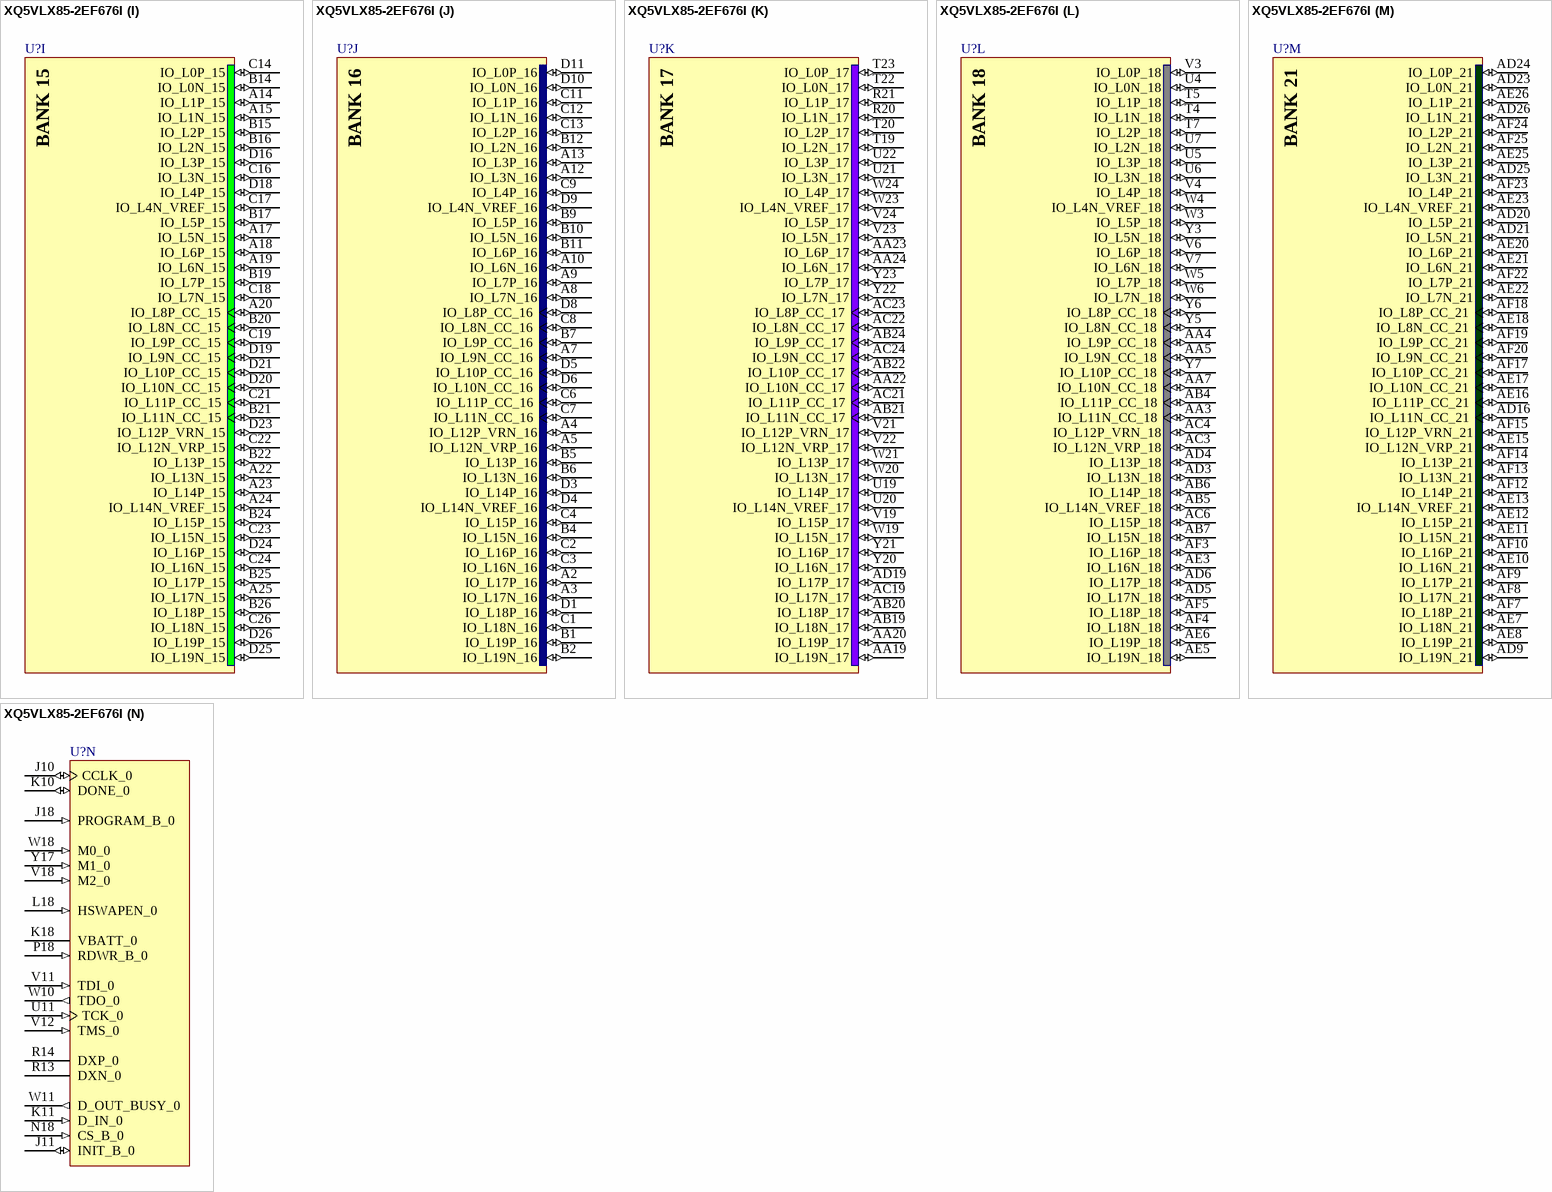
[diagram p102: symbol XQ5VLX85-2EF676I]

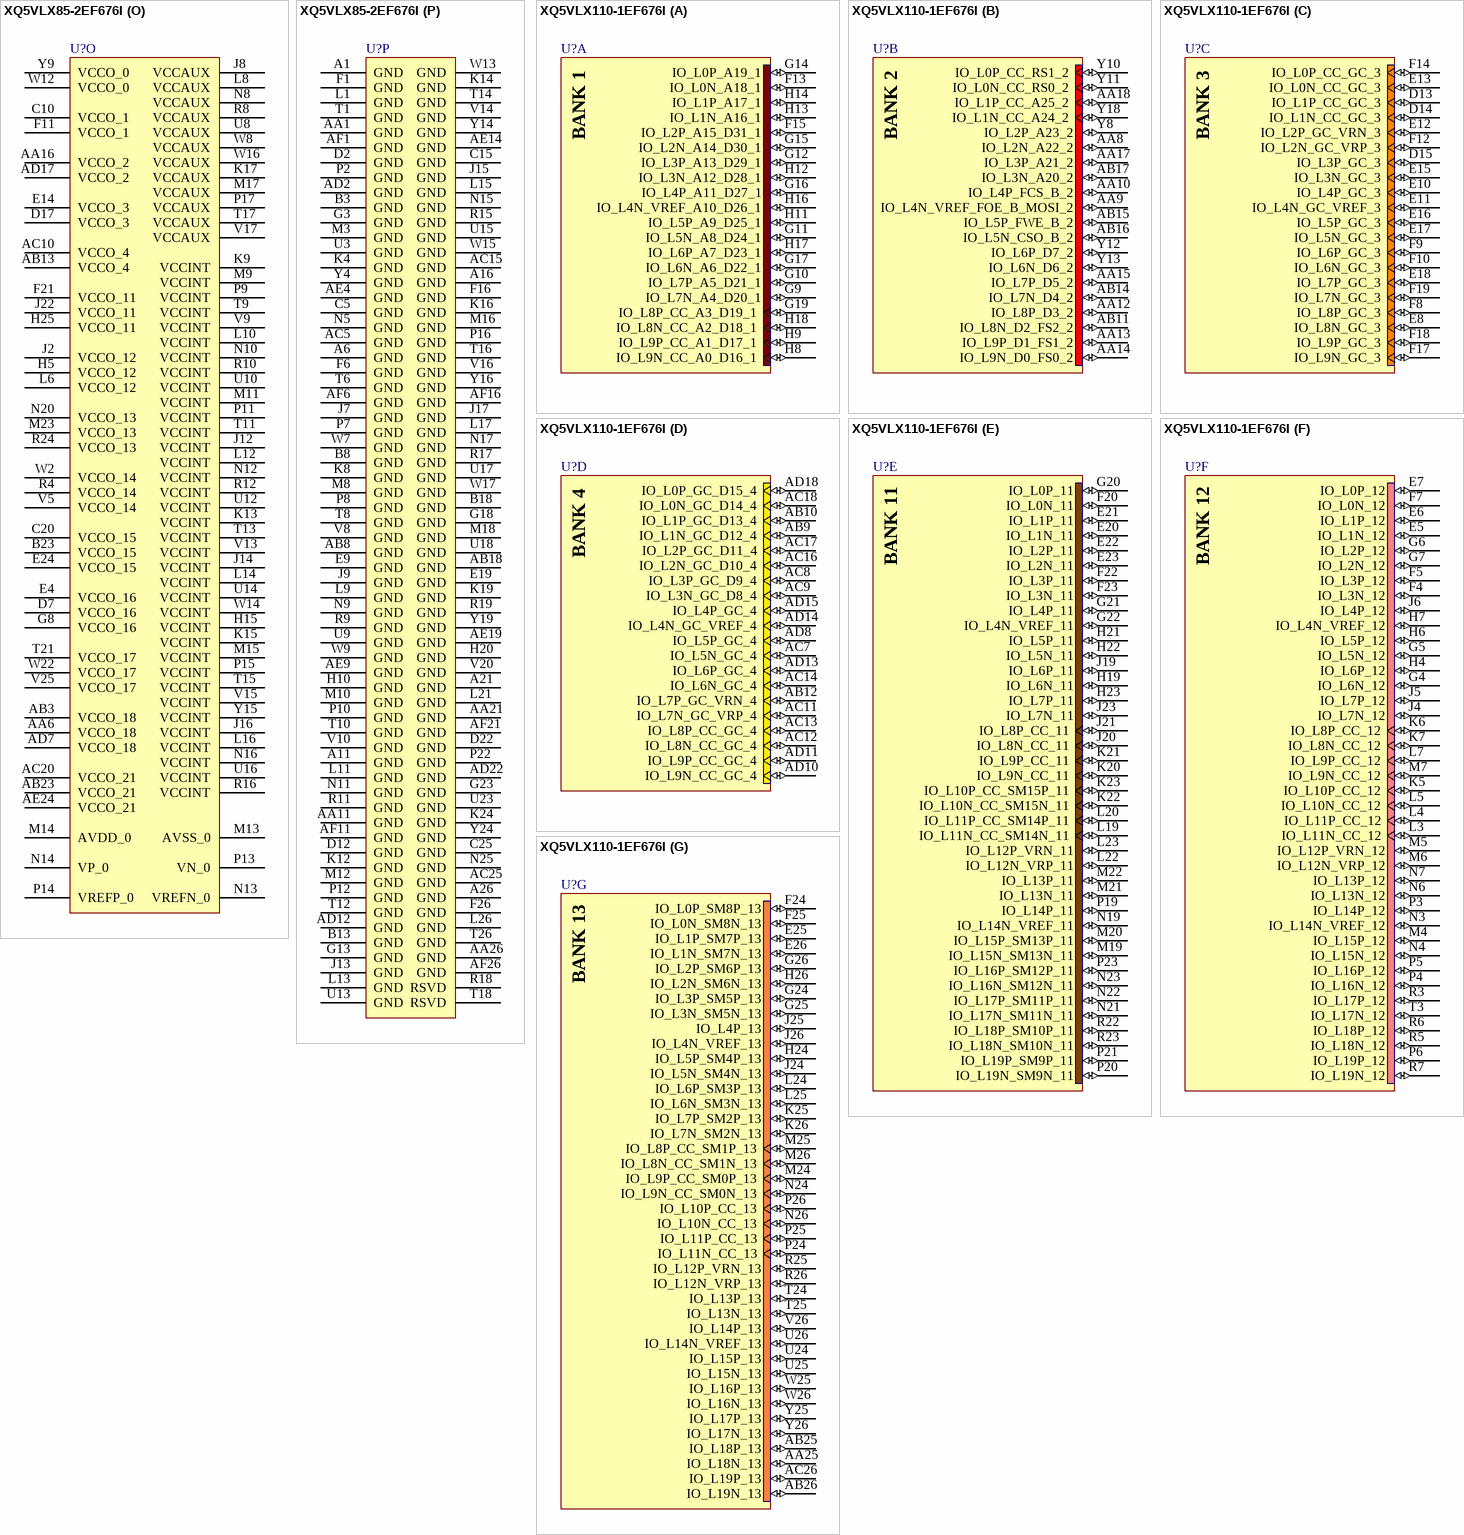
[diagram p103: symbols XQ5VLX85-2EF676I to XQ5VLX110-1EF676I]

## XQ5VLX85-2EF676I
designator U?
Virtex-5Q LX Platform FPGA, 440 User I/Os, 676-Ball EFBGA, Speed Grade 2, Industrial Grade; Note: Do not connect a single-ended clock to the N-side of clock capable pins (CC & GC pins).; DatasheetVersion: ver1.1, Dec-2009; PackageVersion: ver1.0, May-2009; PackageReference: EF676; PackageDescription: 676-Ball Flip Chip Ball Grid Array (EF676); Code_JEDEC: MS-034-AAL-1; Code_IPC: BGA100P26X26-676; ComponentLink1Description: Manufacturer URL; ComponentLink1URL: http://www.xilinx.com/; ComponentLink2Description: Virtex-5Q Datasheet; ComponentLink2URL: http://www.xilinx.com/support/documentation/data_sheets/ds174.pdf; ComponentLink3Description: Pinout; ComponentLink3URL: http://direct.xilinx.com/bvdocs/userguides/ug195.pdf; ComponentLink4Description: EF676 Package Drawing; ComponentLink4URL: http://www.xilinx.com/support/documentation/package_specs/ef676.pdf; ComponentLink5Description: Virtex-5Q Documents; ComponentLink5URL: http://www.xilinx.com/support/documentation/virtex-5q.htm
footprint EF676 (BGA, 676-Leads, Body 27x27mm, Pitch 1mm)
part A pins: F13 IO_L0N_A18_1 (io), F15 IO_L2P_A15_D31_1 (io), G9 IO_L7N_A4_D20_1 (io), G10 IO_L7P_A5_D21_1 (io), G11 IO_L5N_A8_D24_1 (io), G12 IO_L3P_A13_D29_1 (io), G14 IO_L0P_A19_1 (io), G15 IO_L2N_A14_D30_1 (io), G16 IO_L4P_A11_D27_1 (io), G17 IO_L6N_A6_D22_1 (io), G19 IO_L8P_CC_A3_D19_1 (io), H8 IO_L9N_CC_A0_D16_1 (io), H9 IO_L9P_CC_A1_D17_1 (io), H11 IO_L5P_A9_D25_1 (io), H12 IO_L3N_A12_D28_1 (io), H13 IO_L1N_A16_1 (io), H14 IO_L1P_A17_1 (io), H16 IO_L4N_VREF_A10_D26_1 (io), H17 IO_L6P_A7_D23_1 (io), H18 IO_L8N_CC_A2_D18_1 (io)
part B pins: AA8 IO_L2N_A22_2 (io), AA9 IO_L4N_VREF_FOE_B_MOSI_2 (io), AA10 IO_L4P_FCS_B_2 (io), AA12 IO_L8P_D3_2 (io), AA13 IO_L9P_D1_FS1_2 (io), AA14 IO_L9N_D0_FS0_2 (io), AA15 IO_L7P_D5_2 (io), AA17 IO_L3P_A21_2 (io), AA18 IO_L1P_CC_A25_2 (io), AB11 IO_L8N_D2_FS2_2 (io), AB14 IO_L7N_D4_2 (io), AB15 IO_L5P_FWE_B_2 (io), AB16 IO_L5N_CSO_B_2 (io), AB17 IO_L3N_A20_2 (io), Y8 IO_L2P_A23_2 (io), Y10 IO_L0P_CC_RS1_2 (io), Y11 IO_L0N_CC_RS0_2 (io), Y12 IO_L6P_D7_2 (io), Y13 IO_L6N_D6_2 (io), Y18 IO_L1N_CC_A24_2 (io)
part C pins: D13 IO_L1P_CC_GC_3 (io), D14 IO_L1N_CC_GC_3 (io), D15 IO_L3P_GC_3 (io), E8 IO_L8N_GC_3 (io), E10 IO_L4P_GC_3 (io), E11 IO_L4N_GC_VREF_3 (io), E12 IO_L2P_GC_VRN_3 (io), E13 IO_L0N_CC_GC_3 (io), E15 IO_L3N_GC_3 (io), E16 IO_L5P_GC_3 (io), E17 IO_L5N_GC_3 (io), E18 IO_L7P_GC_3 (io), F8 IO_L8P_GC_3 (io), F9 IO_L6P_GC_3 (io), F10 IO_L6N_GC_3 (io), F12 IO_L2N_GC_VRP_3 (io), F14 IO_L0P_CC_GC_3 (io), F17 IO_L9N_GC_3 (io), F18 IO_L9P_GC_3 (io), F19 IO_L7N_GC_3 (io)
part D pins: AB9 IO_L1N_GC_D12_4 (io), AB10 IO_L1P_GC_D13_4 (io), AB12 IO_L7P_GC_VRN_4 (io), AC7 IO_L5N_GC_4 (io), AC8 IO_L3P_GC_D9_4 (io), AC9 IO_L3N_GC_D8_4 (io), AC11 IO_L7N_GC_VRP_4 (io), AC12 IO_L8N_CC_GC_4 (io), AC13 IO_L8P_CC_GC_4 (io), AC14 IO_L6N_GC_4 (io), AC16 IO_L2N_GC_D10_4 (io), AC17 IO_L2P_GC_D11_4 (io), AC18 IO_L0N_GC_D14_4 (io), AD8 IO_L5P_GC_4 (io), AD10 IO_L9N_CC_GC_4 (io), AD11 IO_L9P_CC_GC_4 (io), AD13 IO_L6P_GC_4 (io), AD14 IO_L4N_GC_VREF_4 (io), AD15 IO_L4P_GC_4 (io), AD18 IO_L0P_GC_D15_4 (io)
part E pins: E20 IO_L1N_11 (io), E21 IO_L1P_11 (io), E22 IO_L2P_11 (io), E23 IO_L2N_11 (io), F20 IO_L0N_11 (io), F22 IO_L3P_11 (io), F23 IO_L3N_11 (io), G20 IO_L0P_11 (io), G21 IO_L4P_11 (io), G22 IO_L4N_VREF_11 (io), H19 IO_L6N_11 (io), H21 IO_L5P_11 (io), H22 IO_L5N_11 (io), H23 IO_L7P_11 (io), J19 IO_L6P_11 (io), J20 IO_L8N_CC_11 (io), J21 IO_L8P_CC_11 (io), J23 IO_L7N_11 (io), K20 IO_L9N_CC_11 (io), K21 IO_L9P_CC_11 (io), K22 IO_L10N_CC_SM15N_11 (io), K23 IO_L10P_CC_SM15P_11 (io), L19 IO_L11N_CC_SM14N_11 (io), L20 IO_L11P_CC_SM14P_11 (io), L22 IO_L12N_VRP_11 (io), L23 IO_L12P_VRN_11 (io), M19 IO_L15N_SM13N_11 (io), M20 IO_L15P_SM13P_11 (io), M21 IO_L13N_11 (io), M22 IO_L13P_11 (io), N19 IO_L14N_VREF_11 (io), N21 IO_L17N_SM11N_11 (io), N22 IO_L17P_SM11P_11 (io), N23 IO_L16N_SM12N_11 (io), P19 IO_L14P_11 (io), P20 IO_L19N_SM9N_11 (io), P21 IO_L19P_SM9P_11 (io), P23 IO_L16P_SM12P_11 (io), R22 IO_L18P_SM10P_11 (io), R23 IO_L18N_SM10N_11 (io)
part F pins: E5 IO_L1N_12 (io), E6 IO_L1P_12 (io), E7 IO_L0P_12 (io), F4 IO_L3N_12 (io), F5 IO_L3P_12 (io), F7 IO_L0N_12 (io), G4 IO_L6N_12 (io), G5 IO_L5N_12 (io), G6 IO_L2P_12 (io), G7 IO_L2N_12 (io), H4 IO_L6P_12 (io), H6 IO_L5P_12 (io), H7 IO_L4N_VREF_12 (io), J4 IO_L7N_12 (io), J5 IO_L7P_12 (io), J6 IO_L4P_12 (io), K5 IO_L10P_CC_12 (io), K6 IO_L8P_CC_12 (io), K7 IO_L8N_CC_12 (io), L3 IO_L11N_CC_12 (io), L4 IO_L11P_CC_12 (io), L5 IO_L10N_CC_12 (io), L7 IO_L9P_CC_12 (io), M4 IO_L15P_12 (io), M5 IO_L12P_VRN_12 (io), M6 IO_L12N_VRP_12 (io), M7 IO_L9N_CC_12 (io), N3 IO_L14N_VREF_12 (io), N4 IO_L15N_12 (io), N6 IO_L13N_12 (io), N7 IO_L13P_12 (io), P3 IO_L14P_12 (io), P4 IO_L16N_12 (io), P5 IO_L16P_12 (io), P6 IO_L19P_12 (io), R3 IO_L17P_12 (io), R5 IO_L18N_12 (io), R6 IO_L18P_12 (io), R7 IO_L19N_12 (io), T3 IO_L17N_12 (io)
part G pins: AA25 IO_L18N_13 (io), AB25 IO_L18P_13 (io), AB26 IO_L19N_13 (io), AC26 IO_L19P_13 (io), E25 IO_L1P_SM7P_13 (io), E26 IO_L1N_SM7N_13 (io), F24 IO_L0P_SM8P_13 (io), F25 IO_L0N_SM8N_13 (io), G24 IO_L3P_SM5P_13 (io), G25 IO_L3N_SM5N_13 (io), G26 IO_L2P_SM6P_13 (io), H24 IO_L5P_SM4P_13 (io), H26 IO_L2N_SM6N_13 (io), J24 IO_L5N_SM4N_13 (io), J25 IO_L4P_13 (io), J26 IO_L4N_VREF_13 (io), K25 IO_L7P_SM2P_13 (io), K26 IO_L7N_SM2N_13 (io), L24 IO_L6P_SM3P_13 (io), L25 IO_L6N_SM3N_13 (io), M24 IO_L9P_CC_SM0P_13 (io), M25 IO_L8P_CC_SM1P_13 (io), M26 IO_L8N_CC_SM1N_13 (io), N24 IO_L9N_CC_SM0N_13 (io), N26 IO_L10N_CC_13 (io), P24 IO_L11N_CC_13 (io), P25 IO_L11P_CC_13 (io), P26 IO_L10P_CC_13 (io), R25 IO_L12P_VRN_13 (io), R26 IO_L12N_VRP_13 (io), T24 IO_L13P_13 (io), T25 IO_L13N_13 (io), U24 IO_L15P_13 (io), U25 IO_L15N_13 (io), U26 IO_L14N_VREF_13 (io), V26 IO_L14P_13 (io), W25 IO_L16P_13 (io), W26 IO_L16N_13 (io), Y25 IO_L17P_13 (io), Y26 IO_L17N_13 (io)
part H pins: AA2 IO_L15P_14 (io), AB1 IO_L16N_14 (io), AB2 IO_L16P_14 (io), AC1 IO_L17N_14 (io), AC2 IO_L17P_14 (io), AD1 IO_L18N_14 (io), AE1 IO_L18P_14 (io), AE2 IO_L19N_14 (io), AF2 IO_L19P_14 (io), E1 IO_L0N_14 (io), E2 IO_L0P_14 (io), E3 IO_L1N_14 (io), F2 IO_L3P_14 (io), F3 IO_L1P_14 (io), G1 IO_L2P_14 (io), G2 IO_L3N_14 (io), H1 IO_L2N_14 (io), H2 IO_L7N_14 (io), H3 IO_L5P_14 (io), J1 IO_L7P_14 (io), J3 IO_L5N_14 (io), K1 IO_L6N_14 (io), K2 IO_L4N_VREF_14 (io), K3 IO_L4P_14 (io), L2 IO_L6P_14 (io), M1 IO_L8P_CC_14 (io), M2 IO_L9P_CC_14 (io), N1 IO_L8N_CC_14 (io), N2 IO_L9N_CC_14 (io), P1 IO_L10P_CC_14 (io), R1 IO_L10N_CC_14 (io), R2 IO_L11N_CC_14 (io), T2 IO_L11P_CC_14 (io), U1 IO_L12N_VRP_14 (io), U2 IO_L12P_VRN_14 (io), V1 IO_L13N_14 (io), V2 IO_L13P_14 (io), W1 IO_L14N_VREF_14 (io), Y1 IO_L14P_14 (io), Y2 IO_L15N_14 (io)
part I pins: A14 IO_L1P_15 (io), A15 IO_L1N_15 (io), A17 IO_L5N_15 (io), A18 IO_L6P_15 (io), A19 IO_L6N_15 (io), A20 IO_L8P_CC_15 (io), A22 IO_L13N_15 (io), A23 IO_L14P_15 (io), A24 IO_L14N_VREF_15 (io), A25 IO_L17N_15 (io), B14 IO_L0N_15 (io), B15 IO_L2P_15 (io), B16 IO_L2N_15 (io), B17 IO_L5P_15 (io), B19 IO_L7P_15 (io), B20 IO_L8N_CC_15 (io), B21 IO_L11N_CC_15 (io), B22 IO_L13P_15 (io), B24 IO_L15P_15 (io), B25 IO_L17P_15 (io), B26 IO_L18P_15 (io), C14 IO_L0P_15 (io), C16 IO_L3N_15 (io), C17 IO_L4N_VREF_15 (io), C18 IO_L7N_15 (io), C19 IO_L9P_CC_15 (io), C21 IO_L11P_CC_15 (io), C22 IO_L12N_VRP_15 (io), C23 IO_L15N_15 (io), C24 IO_L16N_15 (io), C26 IO_L18N_15 (io), D16 IO_L3P_15 (io), D18 IO_L4P_15 (io), D19 IO_L9N_CC_15 (io), D20 IO_L10N_CC_15 (io), D21 IO_L10P_CC_15 (io), D23 IO_L12P_VRN_15 (io), D24 IO_L16P_15 (io), D25 IO_L19N_15 (io), D26 IO_L19P_15 (io)
part J pins: A2 IO_L17P_16 (io), A3 IO_L17N_16 (io), A4 IO_L12P_VRN_16 (io), A5 IO_L12N_VRP_16 (io), A7 IO_L9N_CC_16 (io), A8 IO_L7N_16 (io), A9 IO_L7P_16 (io), A10 IO_L6N_16 (io), A12 IO_L3N_16 (io), A13 IO_L3P_16 (io), B1 IO_L19P_16 (io), B2 IO_L19N_16 (io), B4 IO_L15N_16 (io), B5 IO_L13P_16 (io), B6 IO_L13N_16 (io), B7 IO_L9P_CC_16 (io), B9 IO_L5P_16 (io), B10 IO_L5N_16 (io), B11 IO_L6P_16 (io), B12 IO_L2N_16 (io), C1 IO_L18N_16 (io), C2 IO_L16P_16 (io), C3 IO_L16N_16 (io), C4 IO_L15P_16 (io), C6 IO_L11P_CC_16 (io), C7 IO_L11N_CC_16 (io), C8 IO_L8N_CC_16 (io), C9 IO_L4P_16 (io), C11 IO_L1P_16 (io), C12 IO_L1N_16 (io), C13 IO_L2P_16 (io), D1 IO_L18P_16 (io), D3 IO_L14P_16 (io), D4 IO_L14N_VREF_16 (io), D5 IO_L10P_CC_16 (io), D6 IO_L10N_CC_16 (io), D8 IO_L8P_CC_16 (io), D9 IO_L4N_VREF_16 (io), D10 IO_L0N_16 (io), D11 IO_L0P_16 (io)
part K pins: AA19 IO_L19N_17 (io), AA20 IO_L19P_17 (io), AA22 IO_L10N_CC_17 (io), AA23 IO_L6P_17 (io), AA24 IO_L6N_17 (io), AB19 IO_L18N_17 (io), AB20 IO_L18P_17 (io), AB21 IO_L11N_CC_17 (io), AB22 IO_L10P_CC_17 (io), AB24 IO_L9P_CC_17 (io), AC19 IO_L17N_17 (io), AC21 IO_L11P_CC_17 (io), AC22 IO_L8N_CC_17 (io), AC23 IO_L8P_CC_17 (io), AC24 IO_L9N_CC_17 (io), AD19 IO_L17P_17 (io), R20 IO_L1N_17 (io), R21 IO_L1P_17 (io), T19 IO_L2N_17 (io), T20 IO_L2P_17 (io), T22 IO_L0N_17 (io), T23 IO_L0P_17 (io), U19 IO_L14P_17 (io), U20 IO_L14N_VREF_17 (io), U21 IO_L3N_17 (io), U22 IO_L3P_17 (io), V19 IO_L15P_17 (io), V21 IO_L12P_VRN_17 (io), V22 IO_L12N_VRP_17 (io), V23 IO_L5N_17 (io), V24 IO_L5P_17 (io), W19 IO_L15N_17 (io), W20 IO_L13N_17 (io), W21 IO_L13P_17 (io), W23 IO_L4N_VREF_17 (io), W24 IO_L4P_17 (io), Y20 IO_L16N_17 (io), Y21 IO_L16P_17 (io), Y22 IO_L7N_17 (io), Y23 IO_L7P_17 (io)
part L pins: AA3 IO_L11N_CC_18 (io), AA4 IO_L9P_CC_18 (io), AA5 IO_L9N_CC_18 (io), AA7 IO_L10N_CC_18 (io), AB4 IO_L11P_CC_18 (io), AB5 IO_L14N_VREF_18 (io), AB6 IO_L14P_18 (io), AB7 IO_L15N_18 (io), AC3 IO_L12N_VRP_18 (io), AC4 IO_L12P_VRN_18 (io), AC6 IO_L15P_18 (io), AD3 IO_L13N_18 (io), AD4 IO_L13P_18 (io), AD5 IO_L17N_18 (io), AD6 IO_L17P_18 (io), AE3 IO_L16N_18 (io), AE5 IO_L19N_18 (io), AE6 IO_L19P_18 (io), AF3 IO_L16P_18 (io), AF4 IO_L18N_18 (io), AF5 IO_L18P_18 (io), T4 IO_L1N_18 (io), T5 IO_L1P_18 (io), T7 IO_L2P_18 (io), U4 IO_L0N_18 (io), U5 IO_L3P_18 (io), U6 IO_L3N_18 (io), U7 IO_L2N_18 (io), V3 IO_L0P_18 (io), V4 IO_L4P_18 (io), V6 IO_L6P_18 (io), V7 IO_L6N_18 (io), W3 IO_L5P_18 (io), W4 IO_L4N_VREF_18 (io), W5 IO_L7P_18 (io), W6 IO_L7N_18 (io), Y3 IO_L5N_18 (io), Y5 IO_L8N_CC_18 (io), Y6 IO_L8P_CC_18 (io), Y7 IO_L10P_CC_18 (io)
part M pins: AD9 IO_L19N_21 (io), AD16 IO_L11N_CC_21 (io), AD20 IO_L5P_21 (io), AD21 IO_L5N_21 (io), AD23 IO_L0N_21 (io), AD24 IO_L0P_21 (io), AD25 IO_L3N_21 (io), AD26 IO_L1N_21 (io), AE7 IO_L18N_21 (io), AE8 IO_L19P_21 (io), AE10 IO_L16N_21 (io), AE11 IO_L15N_21 (io), AE12 IO_L15P_21 (io), AE13 IO_L14N_VREF_21 (io), AE15 IO_L12N_VRP_21 (io), AE16 IO_L11P_CC_21 (io), AE17 IO_L10N_CC_21 (io), AE18 IO_L8N_CC_21 (io), AE20 IO_L6P_21 (io), AE21 IO_L6N_21 (io), AE22 IO_L7N_21 (io), AE23 IO_L4N_VREF_21 (io), AE25 IO_L3P_21 (io), AE26 IO_L1P_21 (io), AF7 IO_L18P_21 (io), AF8 IO_L17N_21 (io), AF9 IO_L17P_21 (io), AF10 IO_L16P_21 (io), AF12 IO_L14P_21 (io), AF13 IO_L13N_21 (io), AF14 IO_L13P_21 (io), AF15 IO_L12P_VRN_21 (io), AF17 IO_L10P_CC_21 (io), AF18 IO_L8P_CC_21 (io), AF19 IO_L9P_CC_21 (io), AF20 IO_L9N_CC_21 (io), AF22 IO_L7P_21 (io), AF23 IO_L4P_21 (io), AF24 IO_L2P_21 (io), AF25 IO_L2N_21 (io)
part N pins: J10 CCLK_0 (io), J11 INIT_B_0 (io), J18 PROGRAM_B_0 (in), K10 DONE_0 (io), K11 D_IN_0 (in), K18 VBATT_0 (power), L18 HSWAPEN_0 (in), N18 CS_B_0 (in), P18 RDWR_B_0 (in), R13 DXN_0, R14 DXP_0, U11 TCK_0 (in), V11 TDI_0 (in), V12 TMS_0 (in), V18 M2_0 (in), W10 TDO_0 (out), W11 D_OUT_BUSY_0 (out), W18 M0_0 (in), Y17 M1_0 (in)
part O pins: AA6 VCCO_18 (power), AA16 VCCO_2 (power), AB3 VCCO_18 (power), AB13 VCCO_4 (power), AB23 VCCO_21 (power), AC10 VCCO_4 (power), AC20 VCCO_21 (power), AD7 VCCO_18 (power), AD17 VCCO_2 (power), AE24 VCCO_21 (power), B23 VCCO_15 (power), C10 VCCO_1 (power), C20 VCCO_15 (power), D7 VCCO_16 (power), D17 VCCO_3 (power), E4 VCCO_16 (power), E14 VCCO_3 (power), E24 VCCO_15 (power), F11 VCCO_1 (power), F21 VCCO_11 (power), G8 VCCO_16 (power), H5 VCCO_12 (power), H15 VCCINT (power), H25 VCCO_11 (power), J2 VCCO_12 (power), J8 VCCAUX (power), J12 VCCINT (power), J14 VCCINT (power), J16 VCCINT (power), J22 VCCO_11 (power), K9 VCCINT (power), K13 VCCINT (power), K15 VCCINT (power), K17 VCCAUX (power), L6 VCCO_12 (power), L8 VCCAUX (power), L10 VCCINT (power), L12 VCCINT (power), L14 VCCINT (power), L16 VCCINT (power), M9 VCCINT (power), M11 VCCINT (power), M13 AVSS_0 (power), M14 AVDD_0 (power), M15 VCCINT (power), M17 VCCAUX (power), M23 VCCO_13 (power), N8 VCCAUX (power), N10 VCCINT (power), N12 VCCINT (power), N13 VREFN_0 (power), N14 VP_0 (power), N16 VCCINT (power), N20 VCCO_13 (power), P9 VCCINT (power), P11 VCCINT (power), P13 VN_0 (power), P14 VREFP_0 (power), P15 VCCINT (power), P17 VCCAUX (power), R4 VCCO_14 (power), R8 VCCAUX (power), R10 VCCINT (power), R12 VCCINT (power), R16 VCCINT (power), R24 VCCO_13 (power), T9 VCCINT (power), T11 VCCINT (power), T13 VCCINT (power), T15 VCCINT (power), T17 VCCAUX (power), T21 VCCO_17 (power), U8 VCCAUX (power), U10 VCCINT (power), U12 VCCINT (power), U14 VCCINT (power), U16 VCCINT (power), V5 VCCO_14 (power), V9 VCCINT (power), V13 VCCINT (power), V15 VCCINT (power), V17 VCCAUX (power), V25 VCCO_17 (power), W2 VCCO_14 (power), W8 VCCAUX (power), W12 VCCO_0 (power), W14 VCCINT (power), W16 VCCAUX (power), W22 VCCO_17 (power), Y9 VCCO_0 (power), Y15 VCCINT (power)
part P pins: A1 GND (power), A6 GND (power), A11 GND (power), A16 GND (power), A21 GND (power), A26 GND (power), AA1 GND (power), AA11 GND (power), AA21 GND (power), AA26 GND (power), AB8 GND (power), AB18 GND (power), AC5 GND (power), AC15 GND (power), AC25 GND (power), AD2 GND (power), AD12 GND (power), AD22 GND (power), AE4 GND (power), AE9 GND (power), AE14 GND (power), AE19 GND (power), AF1 GND (power), AF6 GND (power), AF11 GND (power), AF16 GND (power), AF21 GND (power), AF26 GND (power), B3 GND (power), B8 GND (power), B13 GND (power), B18 GND (power), C5 GND (power), C15 GND (power), C25 GND (power), D2 GND (power), D12 GND (power), D22 GND (power), E9 GND (power), E19 GND (power), F1 GND (power), F6 GND (power), F16 GND (power), F26 GND (power), G3 GND (power), G13 GND (power), G18 GND (power), G23 GND (power), H10 GND (power), H20 GND (power), J7 GND (power), J9 GND (power), J13 GND (power), J15 GND (power), J17 GND (power), K4 GND (power), K8 GND (power), K12 GND (power), K14 GND (power), K16 GND (power), K19 GND (power), K24 GND (power), L1 GND (power), L9 GND (power), L11 GND (power), L13 GND (power), L15 GND (power), L17 GND (power), L21 GND (power), L26 GND (power), M3 GND (power), M8 GND (power), M10 GND (power), M12 GND (power), M16 GND (power), M18 GND (power), N5 GND (power), N9 GND (power), N11 GND (power), N15 GND (power), N17 GND (power), N25 GND (power), P2 GND (power), P7 GND (power), P8 GND (power), P10 GND (power), P12 GND (power), P16 GND (power), P22 GND (power), R9 GND (power), R11 GND (power), R15 GND (power), R17 GND (power), R18 RSVD, R19 GND (power), T1 GND (power), T6 GND (power), T8 GND (power), T10 GND (power), T12 GND (power), T14 GND (power), T16 GND (power), T18 RSVD, T26 GND (power), U3 GND (power), U9 GND (power), U13 GND (power), U15 GND (power), U17 GND (power), U18 GND (power), U23 GND (power), V8 GND (power), V10 GND (power), V14 GND (power), V16 GND (power), V20 GND (power), W7 GND (power), W9 GND (power), W13 GND (power), W15 GND (power), W17 GND (power), Y4 GND (power), Y14 GND (power), Y16 GND (power), Y19 GND (power), Y24 GND (power)
part A text: BANK 1
part B text: BANK 2
part C text: BANK 3
part D text: BANK 4
part E text: BANK 11
part F text: BANK 12
part G text: BANK 13
part H text: BANK 14
part I text: BANK 15
part J text: BANK 16
part K text: BANK 17
part L text: BANK 18
part M text: BANK 21

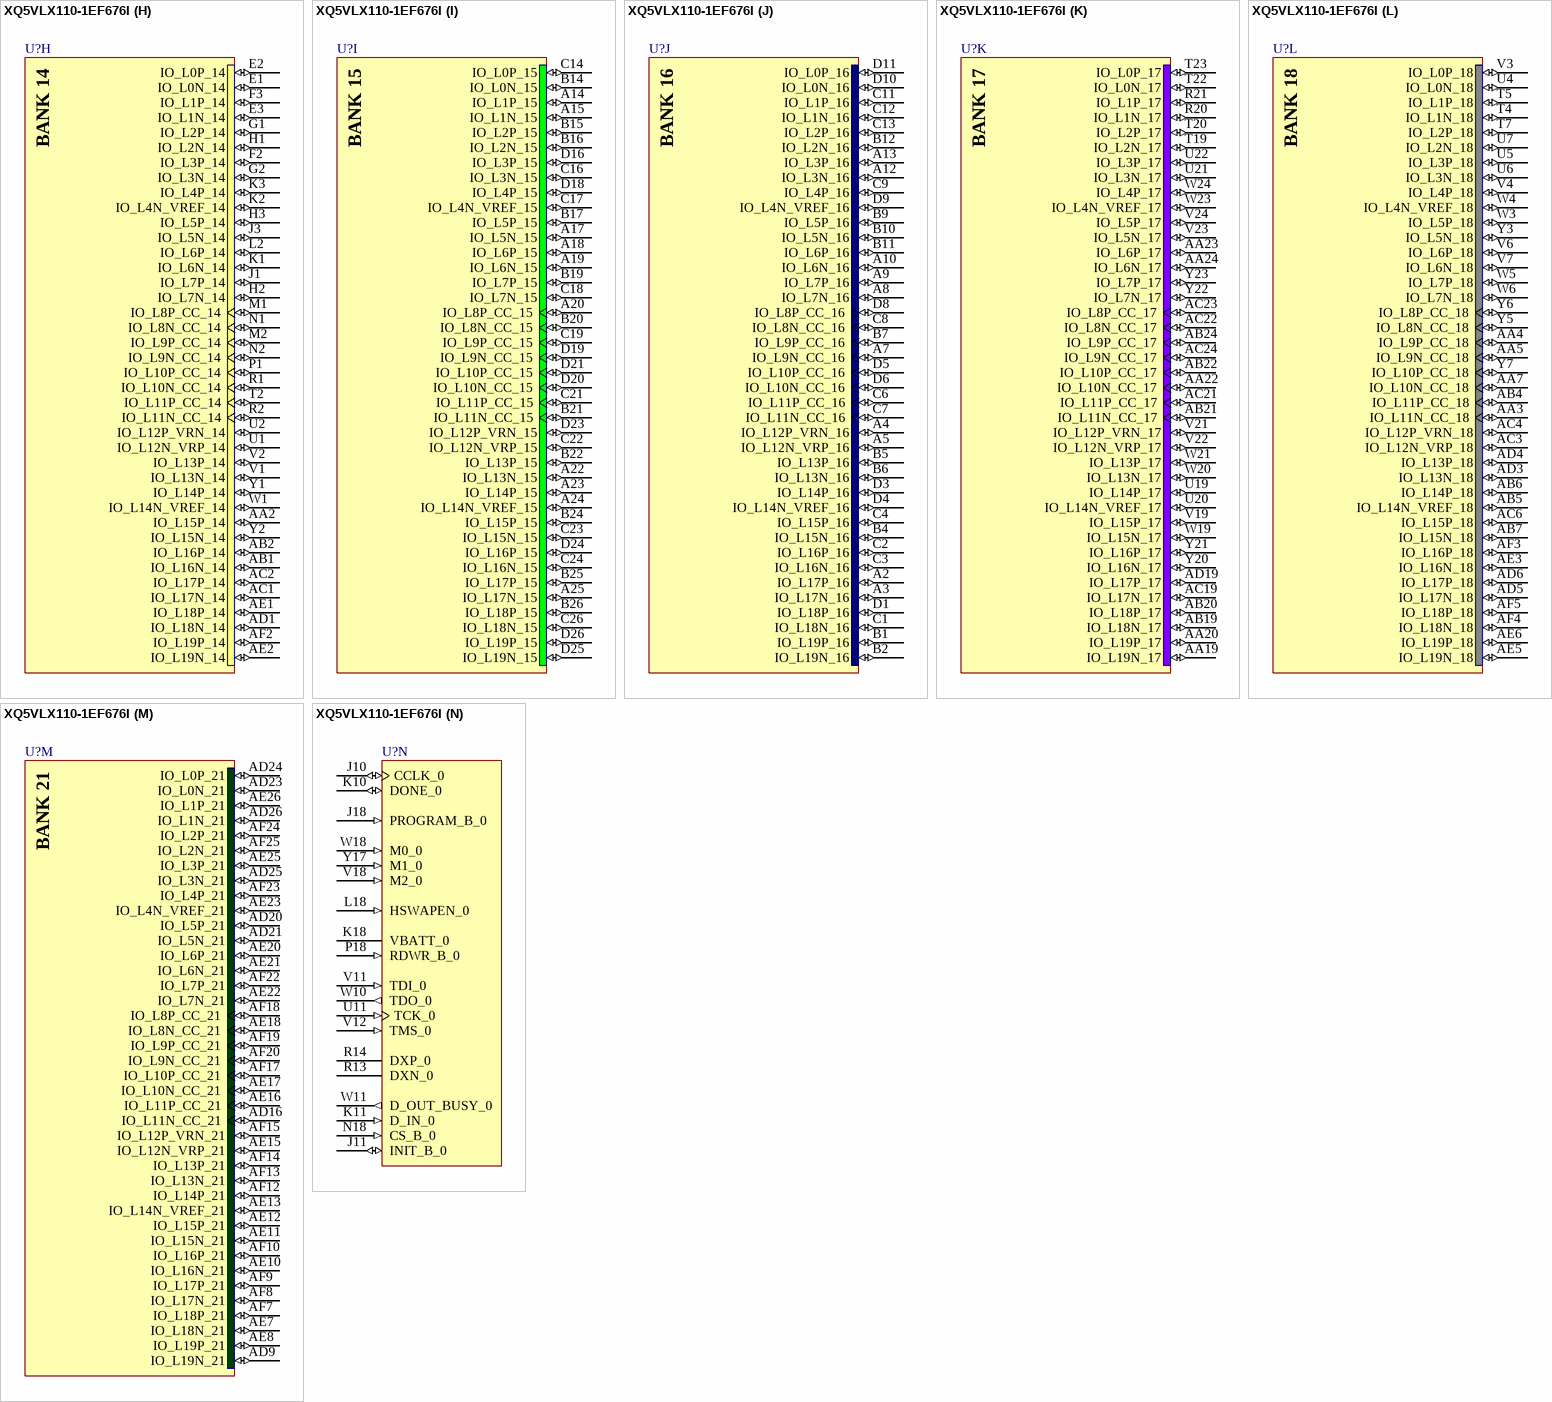
[diagram p104: symbol XQ5VLX110-1EF676I]

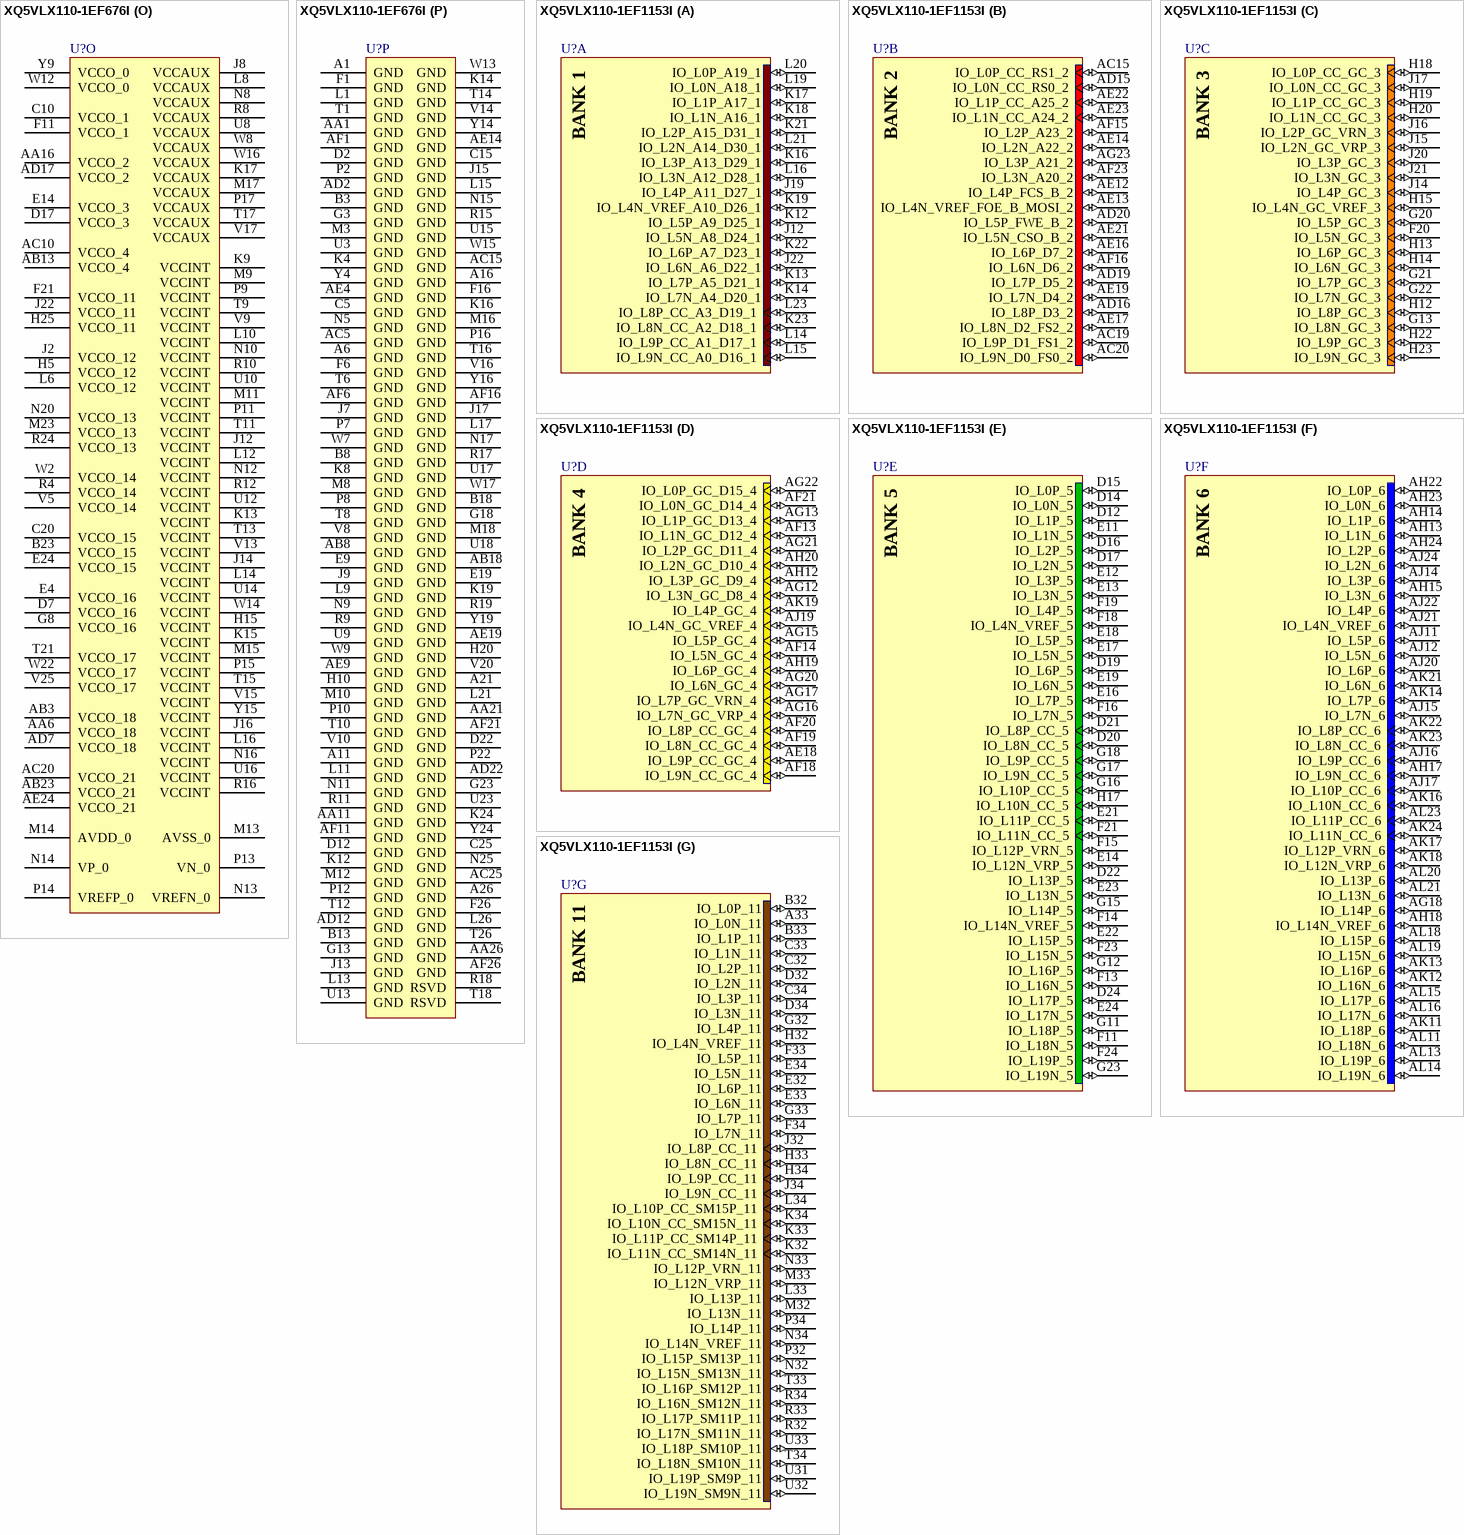
[diagram p105: symbols XQ5VLX110-1EF676I to XQ5VLX110-1EF1153I]